# Altium integrated library CDE_Library.IntLib: 6171 symbols (part 4 of 25)
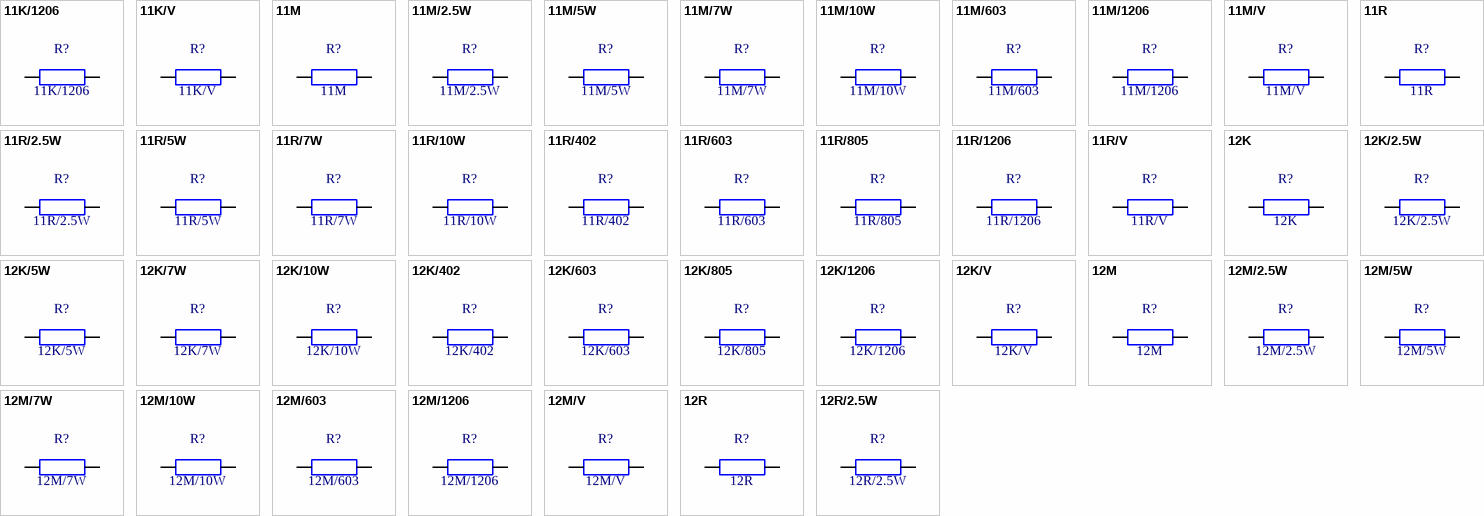
[diagram p260: symbols 11K/1206 to 12R/2.5W]

## 11M
designator R?
weerstand 11M 0.6W
footprint ws 0.6W H
pins: 1, 2

## 11M/2.5W
designator R?
weerstand 11M 2.5W
footprint ws 2.5W H
pins: 1, 2

## 11M/5W
designator R?
weerstand 11M 5W
footprint ws 5W H
pins: 1, 2

## 11M/7W
designator R?
weerstand 11M 7W
footprint ws 7W H
pins: 1, 2

## 11M/10W
designator R?
weerstand 11M 10W
footprint ws 10W H
pins: 1, 2

## 11M/603
designator R?
weerstand SMD603, 11M
footprint smd C0603_0.45
pins: 1, 2

## 11M/1206
designator R?
weerstand SMD1206, 11M
footprint smd C1206_0.55
pins: 1, 2

## 11M/V
designator R?
weerstand 11M 0.6W, vertikaal
footprint ws 0.6W V
pins: 1, 2

## 11R
designator R?
weerstand 11R 0.6W
footprint ws 0.6W H
pins: 1, 2

## 11R/2.5W
designator R?
weerstand 11R 2.5W
footprint ws 2.5W H
pins: 1, 2

## 11R/5W
designator R?
weerstand 11R 5W
footprint ws 5W H
pins: 1, 2

## 11R/7W
designator R?
weerstand 11R 7W
footprint ws 7W H
pins: 1, 2

## 11R/10W
designator R?
weerstand 11R 10W
footprint ws 10W H
pins: 1, 2

## 11R/402
designator R?
weerstand SMD402, 11R
footprint smd C0402_0.35
pins: 1, 2

## 11R/603
designator R?
weerstand SMD603, 11R
footprint smd C0603_0.45
pins: 1, 2

## 11R/805
designator R?
weerstand SMD805, 11R
footprint smd C0805_0.50
pins: 1, 2

## 11R/1206
designator R?
weerstand SMD1206, 11R
footprint smd C1206_0.55
pins: 1, 2

## 11R/V
designator R?
weerstand 11R 0.6W, vertikaal
footprint ws 0.6W V
pins: 1, 2

## 12K
designator R?
weerstand 12K 0.6W
footprint ws 0.6W H
pins: 1, 2

## 12K/2.5W
designator R?
weerstand 12K 2.5W
footprint ws 2.5W H
pins: 1, 2

## 12K/5W
designator R?
weerstand 12K 5W
footprint ws 5W H
pins: 1, 2

## 12K/7W
designator R?
weerstand 12K 7W
footprint ws 7W H
pins: 1, 2

## 12K/10W
designator R?
weerstand 12K 10W
footprint ws 10W H
pins: 1, 2

## 12K/402
designator R?
weerstand SMD402, 12K
footprint smd C0402_0.35
pins: 1, 2

## 12K/603
designator R?
weerstand SMD603, 12K
footprint smd C0603_0.45
pins: 1, 2

## 12K/805
designator R?
weerstand SMD805, 12K
footprint smd C0805_0.50
pins: 1, 2

## 12K/1206
designator R?
weerstand SMD1206, 12K
footprint smd C1206_0.55
pins: 1, 2

## 12K/V
designator R?
weerstand 12K 0.6W, vertikaal
footprint ws 0.6W V
pins: 1, 2

## 12M
designator R?
weerstand 12M 0.6W
footprint ws 0.6W H
pins: 1, 2

## 12M/2.5W
designator R?
weerstand 12M 2.5W
footprint ws 2.5W H
pins: 1, 2

## 12M/5W
designator R?
weerstand 12M 5W
footprint ws 5W H
pins: 1, 2

## 12M/7W
designator R?
weerstand 12M 7W
footprint ws 7W H
pins: 1, 2

## 12M/10W
designator R?
weerstand 12M 10W
footprint ws 10W H
pins: 1, 2

## 12M/603
designator R?
weerstand SMD603, 12M
footprint smd C0603_0.45
pins: 1, 2

## 12M/1206
designator R?
weerstand SMD1206, 12M
footprint smd C1206_0.55
pins: 1, 2

## 12M/V
designator R?
weerstand 12M 0.6W, vertikaal
footprint ws 0.6W V
pins: 1, 2

## 12R
designator R?
weerstand 12R 0.6W
footprint ws 0.6W H
pins: 1, 2

## 12R/2.5W
designator R?
weerstand 12R 2.5W
footprint ws 2.5W H
pins: 1, 2

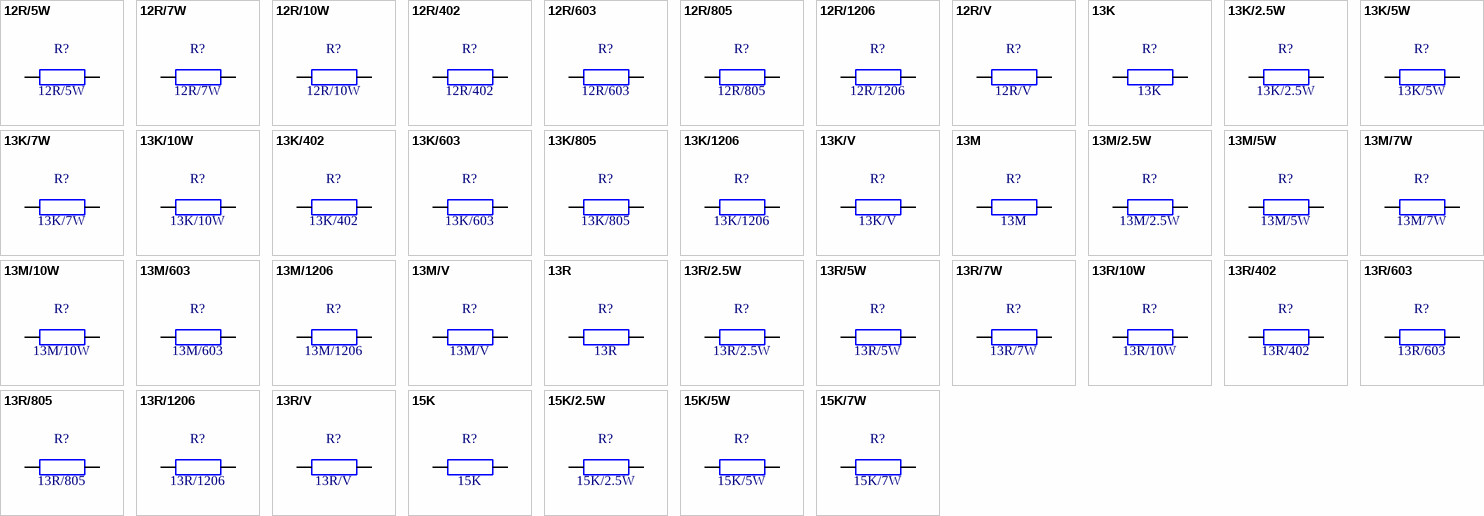
[diagram p50: symbols 12R/5W to 15K/7W]

## 12R/5W
designator R?
weerstand 12R 5W
footprint ws 5W H
pins: 1, 2

## 12R/7W
designator R?
weerstand 12R 7W
footprint ws 7W H
pins: 1, 2

## 12R/10W
designator R?
weerstand 12R 10W
footprint ws 10W H
pins: 1, 2

## 12R/402
designator R?
weerstand SMD402, 12R
footprint smd C0402_0.35
pins: 1, 2

## 12R/603
designator R?
weerstand SMD603, 12R
footprint smd C0603_0.45
pins: 1, 2

## 12R/805
designator R?
weerstand SMD805, 12R
footprint smd C0805_0.50
pins: 1, 2

## 12R/1206
designator R?
weerstand SMD1206, 12R
footprint smd C1206_0.55
pins: 1, 2

## 12R/V
designator R?
weerstand 12R 0.6W, vertikaal
footprint ws 0.6W V
pins: 1, 2

## 13K
designator R?
weerstand 13K 0.6W
footprint ws 0.6W H
pins: 1, 2

## 13K/2.5W
designator R?
weerstand 13K 2.5W
footprint ws 2.5W H
pins: 1, 2

## 13K/5W
designator R?
weerstand 13K 5W
footprint ws 5W H
pins: 1, 2

## 13K/7W
designator R?
weerstand 13K 7W
footprint ws 7W H
pins: 1, 2

## 13K/10W
designator R?
weerstand 13K 10W
footprint ws 10W H
pins: 1, 2

## 13K/402
designator R?
weerstand SMD402, 13K
footprint smd C0402_0.35
pins: 1, 2

## 13K/603
designator R?
weerstand SMD603, 13K
footprint smd C0603_0.45
pins: 1, 2

## 13K/805
designator R?
weerstand SMD805, 13K
footprint smd C0805_0.50
pins: 1, 2

## 13K/1206
designator R?
weerstand SMD1206, 13K
footprint smd C1206_0.55
pins: 1, 2

## 13K/V
designator R?
weerstand 13K 0.6W, vertikaal
footprint ws 0.6W V
pins: 1, 2

## 13M
designator R?
weerstand 13M 0.6W
footprint ws 0.6W H
pins: 1, 2

## 13M/2.5W
designator R?
weerstand 13M 2.5W
footprint ws 2.5W H
pins: 1, 2

## 13M/5W
designator R?
weerstand 13M 5W
footprint ws 5W H
pins: 1, 2

## 13M/7W
designator R?
weerstand 13M 7W
footprint ws 7W H
pins: 1, 2

## 13M/10W
designator R?
weerstand 13M 10W
footprint ws 10W H
pins: 1, 2

## 13M/603
designator R?
weerstand SMD603, 13M
footprint smd C0603_0.45
pins: 1, 2

## 13M/1206
designator R?
weerstand SMD1206, 13M
footprint smd C1206_0.55
pins: 1, 2

## 13M/V
designator R?
weerstand 13M 0.6W, vertikaal
footprint ws 0.6W V
pins: 1, 2

## 13R
designator R?
weerstand 13R 0.6W
footprint ws 0.6W H
pins: 1, 2

## 13R/2.5W
designator R?
weerstand 13R 2.5W
footprint ws 2.5W H
pins: 1, 2

## 13R/5W
designator R?
weerstand 13R 5W
footprint ws 5W H
pins: 1, 2

## 13R/7W
designator R?
weerstand 13R 7W
footprint ws 7W H
pins: 1, 2

## 13R/10W
designator R?
weerstand 13R 10W
footprint ws 10W H
pins: 1, 2

## 13R/402
designator R?
weerstand SMD402, 13R
footprint smd C0402_0.35
pins: 1, 2

## 13R/603
designator R?
weerstand SMD603, 13R
footprint smd C0603_0.45
pins: 1, 2

## 13R/805
designator R?
weerstand SMD805, 13R
footprint smd C0805_0.50
pins: 1, 2

## 13R/1206
designator R?
weerstand SMD1206, 13R
footprint smd C1206_0.55
pins: 1, 2

## 13R/V
designator R?
weerstand 13R 0.6W, vertikaal
footprint ws 0.6W V
pins: 1, 2

## 15K
designator R?
weerstand 15K 0.6W
footprint ws 0.6W H
pins: 1, 2

## 15K/2.5W
designator R?
weerstand 15K 2.5W
footprint ws 2.5W H
pins: 1, 2

## 15K/5W
designator R?
weerstand 15K 5W
footprint ws 5W H
pins: 1, 2

## 15K/7W
designator R?
weerstand 15K 7W
footprint ws 7W H
pins: 1, 2

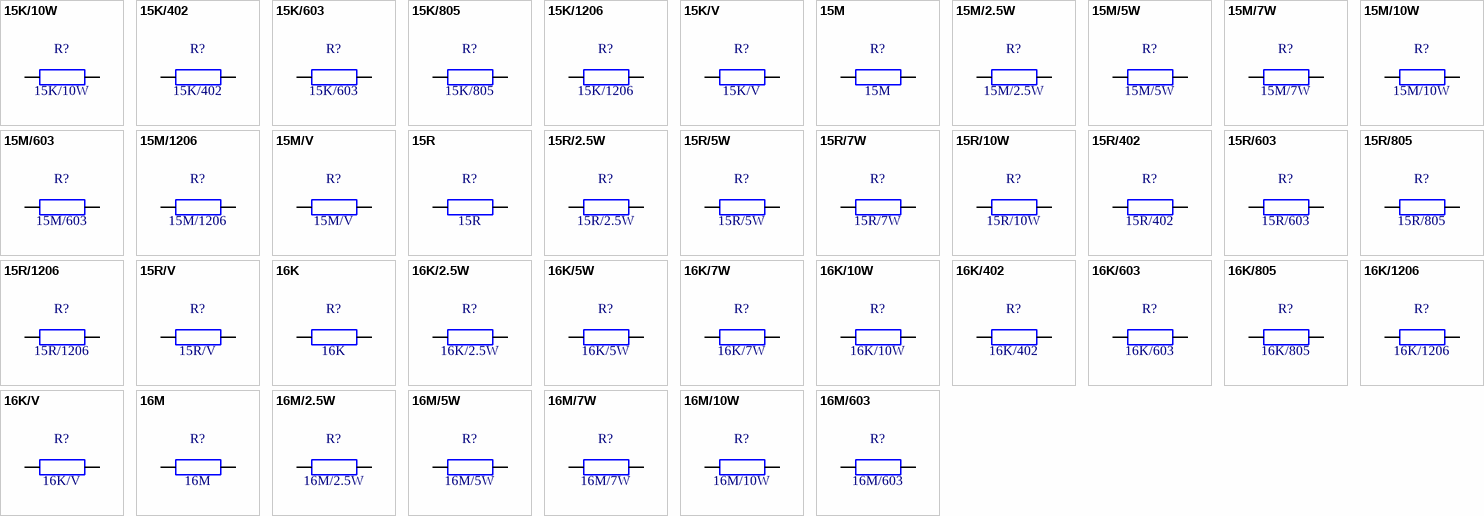
[diagram p51: symbols 15K/10W to 16M/603]

## 15K/10W
designator R?
weerstand 15K 10W
footprint ws 10W H
pins: 1, 2

## 15K/402
designator R?
weerstand SMD402, 15K
footprint smd C0402_0.35
pins: 1, 2

## 15K/603
designator R?
weerstand SMD603, 15K
footprint smd C0603_0.45
pins: 1, 2

## 15K/805
designator R?
weerstand SMD805, 15K
footprint smd C0805_0.50
pins: 1, 2

## 15K/1206
designator R?
weerstand SMD1206, 15K
footprint smd C1206_0.55
pins: 1, 2

## 15K/V
designator R?
weerstand 15K 0.6W, vertikaal
footprint ws 0.6W V
pins: 1, 2

## 15M
designator R?
weerstand 15M 0.6W
footprint ws 0.6W H
pins: 1, 2

## 15M/2.5W
designator R?
weerstand 15M 2.5W
footprint ws 2.5W H
pins: 1, 2

## 15M/5W
designator R?
weerstand 15M 5W
footprint ws 5W H
pins: 1, 2

## 15M/7W
designator R?
weerstand 15M 7W
footprint ws 7W H
pins: 1, 2

## 15M/10W
designator R?
weerstand 15M 10W
footprint ws 10W H
pins: 1, 2

## 15M/603
designator R?
weerstand SMD603, 15M
footprint smd C0603_0.45
pins: 1, 2

## 15M/1206
designator R?
weerstand SMD1206, 15M
footprint smd C1206_0.55
pins: 1, 2

## 15M/V
designator R?
weerstand 15M 0.6W, vertikaal
footprint ws 0.6W V
pins: 1, 2

## 15R
designator R?
weerstand 15R 0.6W
footprint ws 0.6W H
pins: 1, 2

## 15R/2.5W
designator R?
weerstand 15R 2.5W
footprint ws 2.5W H
pins: 1, 2

## 15R/5W
designator R?
weerstand 15R 5W
footprint ws 5W H
pins: 1, 2

## 15R/7W
designator R?
weerstand 15R 7W
footprint ws 7W H
pins: 1, 2

## 15R/10W
designator R?
weerstand 15R 10W
footprint ws 10W H
pins: 1, 2

## 15R/402
designator R?
weerstand SMD402, 15R
footprint smd C0402_0.35
pins: 1, 2

## 15R/603
designator R?
weerstand SMD603, 15R
footprint smd C0603_0.45
pins: 1, 2

## 15R/805
designator R?
weerstand SMD805, 15R
footprint smd C0805_0.50
pins: 1, 2

## 15R/1206
designator R?
weerstand SMD1206, 15R
footprint smd C1206_0.55
pins: 1, 2

## 15R/V
designator R?
weerstand 15R 0.6W, vertikaal
footprint ws 0.6W V
pins: 1, 2

## 16K
designator R?
weerstand 16K 0.6W
footprint ws 0.6W H
pins: 1, 2

## 16K/2.5W
designator R?
weerstand 16K 2.5W
footprint ws 2.5W H
pins: 1, 2

## 16K/5W
designator R?
weerstand 16K 5W
footprint ws 5W H
pins: 1, 2

## 16K/7W
designator R?
weerstand 16K 7W
footprint ws 7W H
pins: 1, 2

## 16K/10W
designator R?
weerstand 16K 10W
footprint ws 10W H
pins: 1, 2

## 16K/402
designator R?
weerstand SMD402, 16K
footprint smd C0402_0.35
pins: 1, 2

## 16K/603
designator R?
weerstand SMD603, 16K
footprint smd C0603_0.45
pins: 1, 2

## 16K/805
designator R?
weerstand SMD805, 16K
footprint smd C0805_0.50
pins: 1, 2

## 16K/1206
designator R?
weerstand SMD1206, 16K
footprint smd C1206_0.55
pins: 1, 2

## 16K/V
designator R?
weerstand 16K 0.6W, vertikaal
footprint ws 0.6W V
pins: 1, 2

## 16M
designator R?
weerstand 16M 0.6W
footprint ws 0.6W H
pins: 1, 2

## 16M/2.5W
designator R?
weerstand 16M 2.5W
footprint ws 2.5W H
pins: 1, 2

## 16M/5W
designator R?
weerstand 16M 5W
footprint ws 5W H
pins: 1, 2

## 16M/7W
designator R?
weerstand 16M 7W
footprint ws 7W H
pins: 1, 2

## 16M/10W
designator R?
weerstand 16M 10W
footprint ws 10W H
pins: 1, 2

## 16M/603
designator R?
weerstand SMD603, 16M
footprint smd C0603_0.45
pins: 1, 2

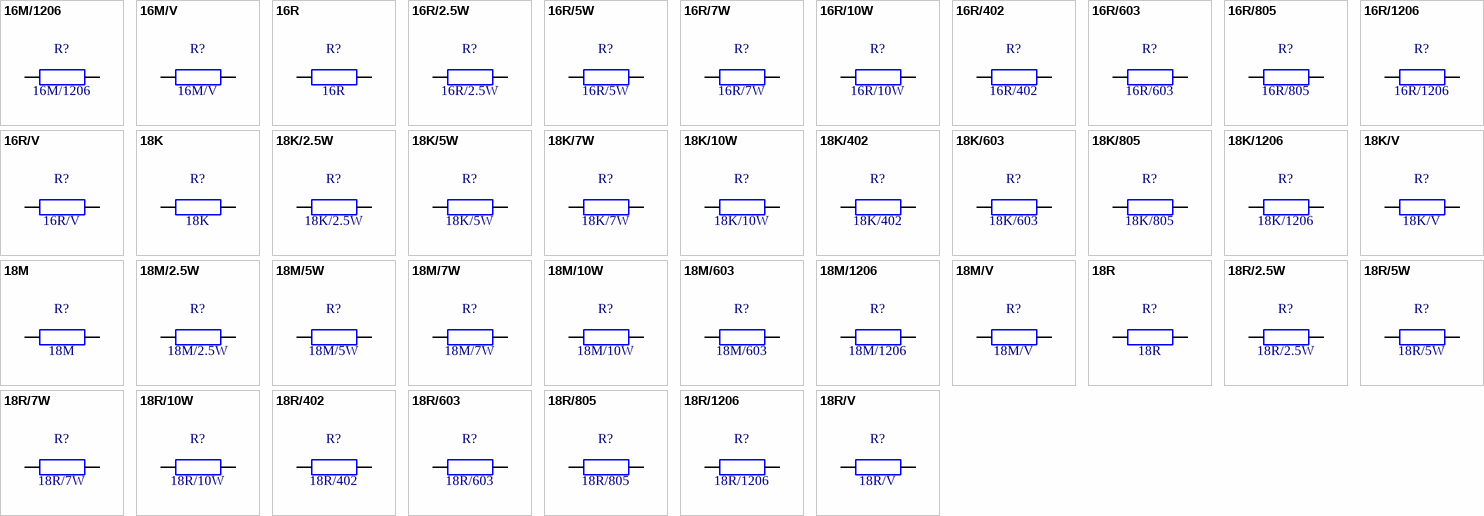
[diagram p52: symbols 16M/1206 to 18R/V]

## 16M/1206
designator R?
weerstand SMD1206, 16M
footprint smd C1206_0.55
pins: 1, 2

## 16M/V
designator R?
weerstand 16M 0.6W, vertikaal
footprint ws 0.6W V
pins: 1, 2

## 16R
designator R?
weerstand 16R 0.6W
footprint ws 0.6W H
pins: 1, 2

## 16R/2.5W
designator R?
weerstand 16R 2.5W
footprint ws 2.5W H
pins: 1, 2

## 16R/5W
designator R?
weerstand 16R 5W
footprint ws 5W H
pins: 1, 2

## 16R/7W
designator R?
weerstand 16R 7W
footprint ws 7W H
pins: 1, 2

## 16R/10W
designator R?
weerstand 16R 10W
footprint ws 10W H
pins: 1, 2

## 16R/402
designator R?
weerstand SMD402, 16R
footprint smd C0402_0.35
pins: 1, 2

## 16R/603
designator R?
weerstand SMD603, 16R
footprint smd C0603_0.45
pins: 1, 2

## 16R/805
designator R?
weerstand SMD805, 16R
footprint smd C0805_0.50
pins: 1, 2

## 16R/1206
designator R?
weerstand SMD1206, 16R
footprint smd C1206_0.55
pins: 1, 2

## 16R/V
designator R?
weerstand 16R 0.6W, vertikaal
footprint ws 0.6W V
pins: 1, 2

## 18K
designator R?
weerstand 18K 0.6W
footprint ws 0.6W H
pins: 1, 2

## 18K/2.5W
designator R?
weerstand 18K 2.5W
footprint ws 2.5W H
pins: 1, 2

## 18K/5W
designator R?
weerstand 18K 5W
footprint ws 5W H
pins: 1, 2

## 18K/7W
designator R?
weerstand 18K 7W
footprint ws 7W H
pins: 1, 2

## 18K/10W
designator R?
weerstand 18K 10W
footprint ws 10W H
pins: 1, 2

## 18K/402
designator R?
weerstand SMD402, 18K
footprint smd C0402_0.35
pins: 1, 2

## 18K/603
designator R?
weerstand SMD603, 18K
footprint smd C0603_0.45
pins: 1, 2

## 18K/805
designator R?
weerstand SMD805, 18K
footprint smd C0805_0.50
pins: 1, 2

## 18K/1206
designator R?
weerstand SMD1206, 18K
footprint smd C1206_0.55
pins: 1, 2

## 18K/V
designator R?
weerstand 18K 0.6W, vertikaal
footprint ws 0.6W V
pins: 1, 2

## 18M
designator R?
weerstand 18M 0.6W
footprint ws 0.6W H
pins: 1, 2

## 18M/2.5W
designator R?
weerstand 18M 2.5W
footprint ws 2.5W H
pins: 1, 2

## 18M/5W
designator R?
weerstand 18M 5W
footprint ws 5W H
pins: 1, 2

## 18M/7W
designator R?
weerstand 18M 7W
footprint ws 7W H
pins: 1, 2

## 18M/10W
designator R?
weerstand 18M 10W
footprint ws 10W H
pins: 1, 2

## 18M/603
designator R?
weerstand SMD603, 18M
footprint smd C0603_0.45
pins: 1, 2

## 18M/1206
designator R?
weerstand SMD1206, 18M
footprint smd C1206_0.55
pins: 1, 2

## 18M/V
designator R?
weerstand 18M 0.6W, vertikaal
footprint ws 0.6W V
pins: 1, 2

## 18R
designator R?
weerstand 18R 0.6W
footprint ws 0.6W H
pins: 1, 2

## 18R/2.5W
designator R?
weerstand 18R 2.5W
footprint ws 2.5W H
pins: 1, 2

## 18R/5W
designator R?
weerstand 18R 5W
footprint ws 5W H
pins: 1, 2

## 18R/7W
designator R?
weerstand 18R 7W
footprint ws 7W H
pins: 1, 2

## 18R/10W
designator R?
weerstand 18R 10W
footprint ws 10W H
pins: 1, 2

## 18R/402
designator R?
weerstand SMD402, 18R
footprint smd C0402_0.35
pins: 1, 2

## 18R/603
designator R?
weerstand SMD603, 18R
footprint smd C0603_0.45
pins: 1, 2

## 18R/805
designator R?
weerstand SMD805, 18R
footprint smd C0805_0.50
pins: 1, 2

## 18R/1206
designator R?
weerstand SMD1206, 18R
footprint smd C1206_0.55
pins: 1, 2

## 18R/V
designator R?
weerstand 18R 0.6W, vertikaal
footprint ws 0.6W V
pins: 1, 2

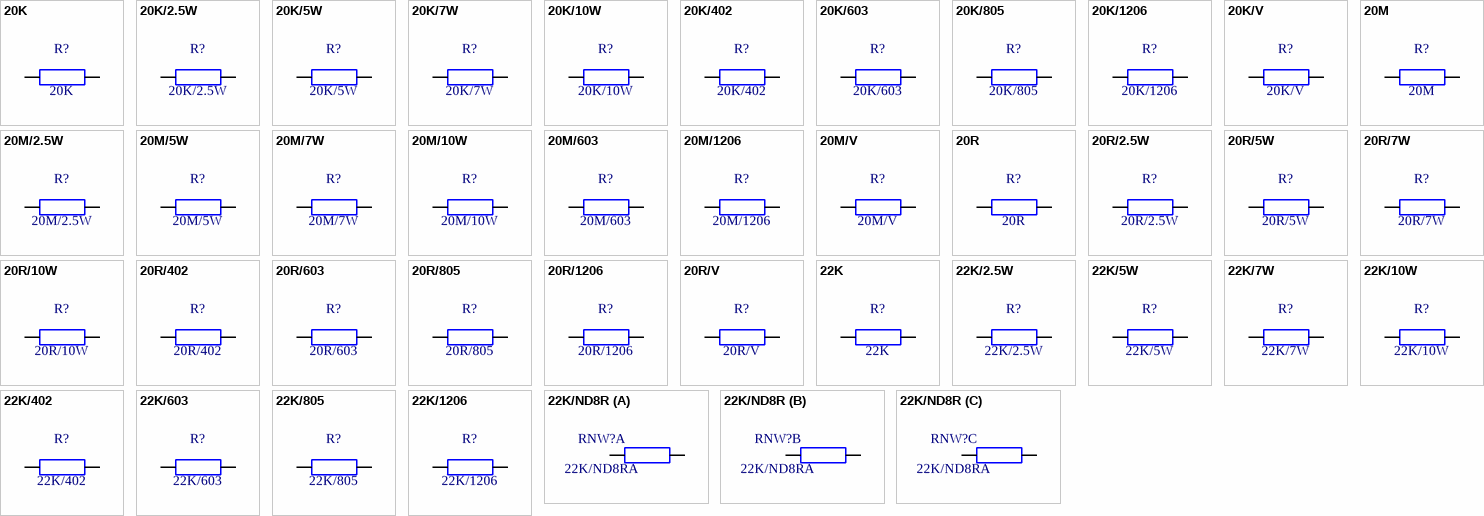
[diagram p53: symbols 20K to 22K/ND8R]

## 20K
designator R?
weerstand 20K 0.6W
footprint ws 0.6W H
pins: 1, 2

## 20K/2.5W
designator R?
weerstand 20K 2.5W
footprint ws 2.5W H
pins: 1, 2

## 20K/5W
designator R?
weerstand 20K 5W
footprint ws 5W H
pins: 1, 2

## 20K/7W
designator R?
weerstand 20K 7W
footprint ws 7W H
pins: 1, 2

## 20K/10W
designator R?
weerstand 20K 10W
footprint ws 10W H
pins: 1, 2

## 20K/402
designator R?
weerstand SMD402, 20K
footprint smd C0402_0.35
pins: 1, 2

## 20K/603
designator R?
weerstand SMD603, 20K
footprint smd C0603_0.45
pins: 1, 2

## 20K/805
designator R?
weerstand SMD805, 20K
footprint smd C0805_0.50
pins: 1, 2

## 20K/1206
designator R?
weerstand SMD1206, 20K
footprint smd C1206_0.55
pins: 1, 2

## 20K/V
designator R?
weerstand 20K 0.6W, vertikaal
footprint ws 0.6W V
pins: 1, 2

## 20M
designator R?
weerstand 20M 0.6W
footprint ws 0.6W H
pins: 1, 2

## 20M/2.5W
designator R?
weerstand 20M 2.5W
footprint ws 2.5W H
pins: 1, 2

## 20M/5W
designator R?
weerstand 20M 5W
footprint ws 5W H
pins: 1, 2

## 20M/7W
designator R?
weerstand 20M 7W
footprint ws 7W H
pins: 1, 2

## 20M/10W
designator R?
weerstand 20M 10W
footprint ws 10W H
pins: 1, 2

## 20M/603
designator R?
weerstand SMD603, 20M
footprint smd C0603_0.45
pins: 1, 2

## 20M/1206
designator R?
weerstand SMD1206, 20M
footprint smd C1206_0.55
pins: 1, 2

## 20M/V
designator R?
weerstand 20M 0.6W, vertikaal
footprint ws 0.6W V
pins: 1, 2

## 20R
designator R?
weerstand 20R 0.6W
footprint ws 0.6W H
pins: 1, 2

## 20R/2.5W
designator R?
weerstand 20R 2.5W
footprint ws 2.5W H
pins: 1, 2

## 20R/5W
designator R?
weerstand 20R 5W
footprint ws 5W H
pins: 1, 2

## 20R/7W
designator R?
weerstand 20R 7W
footprint ws 7W H
pins: 1, 2

## 20R/10W
designator R?
weerstand 20R 10W
footprint ws 10W H
pins: 1, 2

## 20R/402
designator R?
weerstand SMD402, 20R
footprint smd C0402_0.35
pins: 1, 2

## 20R/603
designator R?
weerstand SMD603, 20R
footprint smd C0603_0.45
pins: 1, 2

## 20R/805
designator R?
weerstand SMD805, 20R
footprint smd C0805_0.50
pins: 1, 2

## 20R/1206
designator R?
weerstand SMD1206, 20R
footprint smd C1206_0.55
pins: 1, 2

## 20R/V
designator R?
weerstand 20R 0.6W, vertikaal
footprint ws 0.6W V
pins: 1, 2

## 22K
designator R?
weerstand 22K 0.6W
footprint ws 0.6W H
pins: 1, 2

## 22K/2.5W
designator R?
weerstand 22K 2.5W
footprint ws 2.5W H
pins: 1, 2

## 22K/5W
designator R?
weerstand 22K 5W
footprint ws 5W H
pins: 1, 2

## 22K/7W
designator R?
weerstand 22K 7W
footprint ws 7W H
pins: 1, 2

## 22K/10W
designator R?
weerstand 22K 10W
footprint ws 10W H
pins: 1, 2

## 22K/402
designator R?
weerstand SMD402, 22K
footprint smd C0402_0.35
pins: 1, 2

## 22K/603
designator R?
weerstand SMD603, 22K
footprint smd C0603_0.45
pins: 1, 2

## 22K/805
designator R?
weerstand SMD805, 22K
footprint smd C0805_0.50
pins: 1, 2

## 22K/1206
designator R?
weerstand SMD1206, 22K
footprint smd C1206_0.55
pins: 1, 2

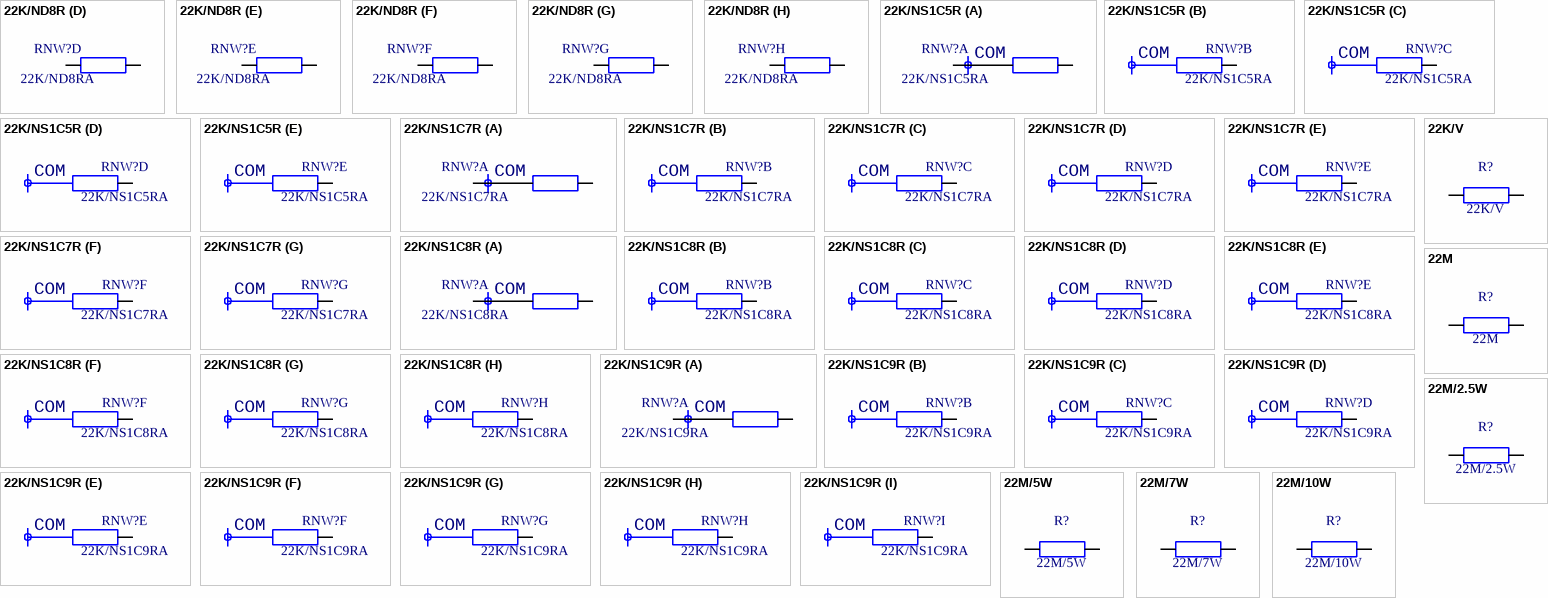
[diagram p54: symbols 22K/ND8R to 22M/10W]

## 22K/ND8R
designator RNW?, comment 22K/ND8RA
weerstandsnetwerk, DIL, 8 x 22K
footprint icv DIP16-300
part A pins: 1, 16
part B pins: 2, 15
part C pins: 3, 14
part D pins: 4, 13
part E pins: 5, 12
part F pins: 6, 11
part G pins: 7, 10
part H pins: 8, 9

## 22K/NS1C5R
designator RNW?, comment 22K/NS1C5RA
weerstandsnetwerk, SIL, 1 gemeens.pin, 5 weerst., 22K
footprint ws netwerk 5xR 1C (SIL)
part A pins: 1, 2
part B pins: 3
part C pins: 4
part D pins: 5
part E pins: 6
part A text: COM
part B text: COM
part C text: COM
part D text: COM
part E text: COM

## 22K/NS1C7R
designator RNW?, comment 22K/NS1C7RA
weerstandsnetwerk, SIL, 1 gemeens.pin, 7 weerst., 22K
footprint ws netwerk 7xR 1C (SIL)
part A pins: 1, 2
part B pins: 3
part C pins: 4
part D pins: 5
part E pins: 6
part F pins: 7
part G pins: 8
part A text: COM
part B text: COM
part C text: COM
part D text: COM
part E text: COM
part F text: COM
part G text: COM

## 22K/NS1C8R
designator RNW?, comment 22K/NS1C8RA
weerstandsnetwerk, SIL, 1 gemeens.pin, 8 weerst., 22K
footprint ws netwerk 8xR 1C (SIL)
part A pins: 1, 2
part B pins: 3
part C pins: 4
part D pins: 5
part E pins: 6
part F pins: 7
part G pins: 8
part H pins: 9
part A text: COM
part B text: COM
part C text: COM
part D text: COM
part E text: COM
part F text: COM
part G text: COM
part H text: COM

## 22K/NS1C9R
designator RNW?, comment 22K/NS1C9RA
weerstandsnetwerk, SIL, 1 gemeens.pin, 9 weerst., 22K
footprint ws netwerk 9xR 1C (SIL)
part A pins: 1, 2
part B pins: 3
part C pins: 4
part D pins: 5
part E pins: 6
part F pins: 7
part G pins: 8
part H pins: 9
part I pins: 10
part A text: COM
part B text: COM
part C text: COM
part D text: COM
part E text: COM
part F text: COM
part G text: COM
part H text: COM
part I text: COM

## 22K/V
designator R?
weerstand 22K 0.6W, vertikaal
footprint ws 0.6W V
pins: 1, 2

## 22M
designator R?
weerstand 22M 0.6W
footprint ws 0.6W H
pins: 1, 2

## 22M/2.5W
designator R?
weerstand 22M 2.5W
footprint ws 2.5W H
pins: 1, 2

## 22M/5W
designator R?
weerstand 22M 5W
footprint ws 5W H
pins: 1, 2

## 22M/7W
designator R?
weerstand 22M 7W
footprint ws 7W H
pins: 1, 2

## 22M/10W
designator R?
weerstand 22M 10W
footprint ws 10W H
pins: 1, 2

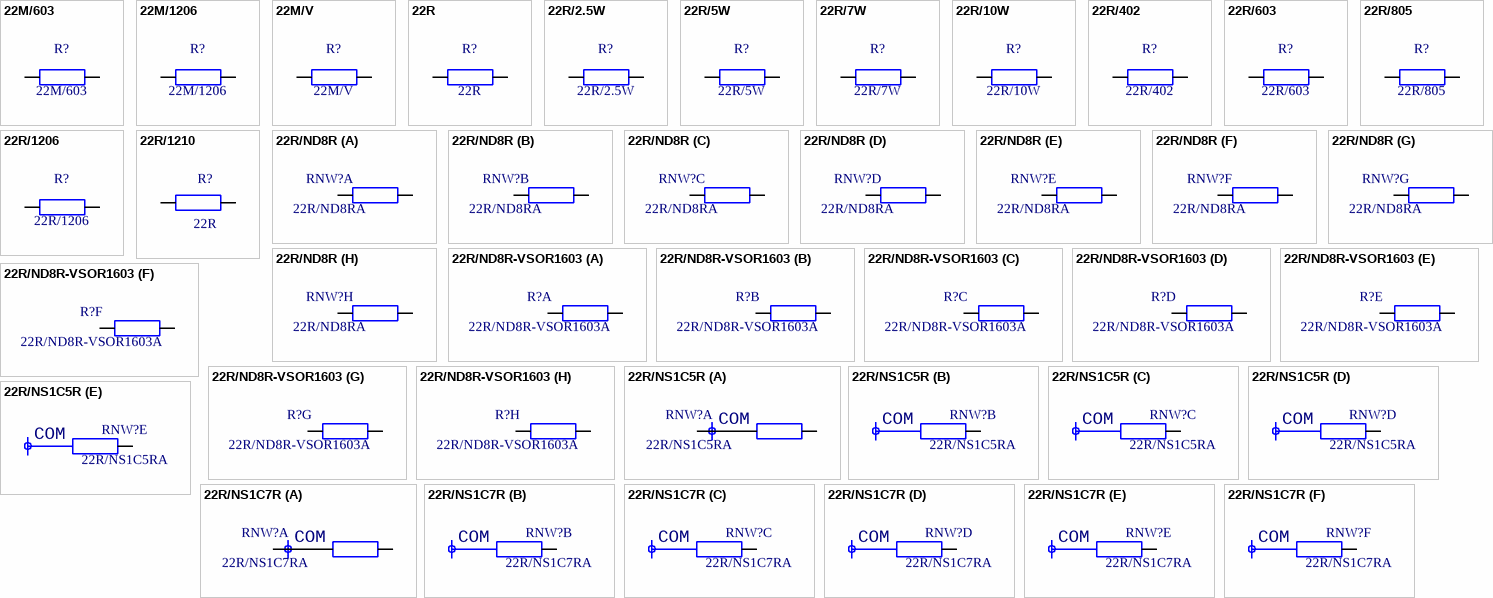
[diagram p55: symbols 22M/603 to 22R/NS1C7R]

## 22M/603
designator R?
weerstand SMD603, 22M
footprint smd C0603_0.45
pins: 1, 2

## 22M/1206
designator R?
weerstand SMD1206, 22M
footprint smd C1206_0.55
pins: 1, 2

## 22M/V
designator R?
weerstand 22M 0.6W, vertikaal
footprint ws 0.6W V
pins: 1, 2

## 22R
designator R?
weerstand 22R 0.6W
footprint ws 0.6W H
pins: 1, 2

## 22R/2.5W
designator R?
weerstand 22R 2.5W
footprint ws 2.5W H
pins: 1, 2

## 22R/5W
designator R?
weerstand 22R 5W
footprint ws 5W H
pins: 1, 2

## 22R/7W
designator R?
weerstand 22R 7W
footprint ws 7W H
pins: 1, 2

## 22R/10W
designator R?
weerstand 22R 10W
footprint ws 10W H
pins: 1, 2

## 22R/402
designator R?
weerstand SMD402, 22R
footprint smd C0402_0.35
pins: 1, 2

## 22R/603
designator R?
weerstand SMD603, 22R
footprint smd C0603_0.45
pins: 1, 2

## 22R/805
designator R?
weerstand SMD805, 22R
footprint smd C0805_0.50
pins: 1, 2

## 22R/1206
designator R?
weerstand SMD1206, 22R
footprint smd C1206_0.55
pins: 1, 2

## 22R/1210
designator R?, comment 22R
weerstand SMD1210, 22R
footprint SMD C1210 (Chip Capacitor; Body 3.2 x 2.5 mm (LxW typ))
pins: 1, 2

## 22R/ND8R
designator RNW?, comment 22R/ND8RA
weerstandsnetwerk, DIL, 8 x 22R
footprint icv DIP16-300
part A pins: 1, 16
part B pins: 2, 15
part C pins: 3, 14
part D pins: 4, 13
part E pins: 5, 12
part F pins: 6, 11
part G pins: 7, 10
part H pins: 8, 9

## 22R/ND8R-VSOR1603
designator R?, comment 22R/ND8R-VSOR1603A
weerstandsnetwerk, DIL, smd, Vishay VSOR1603, 8 x 22R
footprint smd SOICN/16
part A pins: 1, 16
part B pins: 2, 15
part C pins: 3, 14
part D pins: 4, 13
part E pins: 5, 12
part F pins: 6, 11
part G pins: 7, 10
part H pins: 8, 9

## 22R/NS1C5R
designator RNW?, comment 22R/NS1C5RA
weerstandsnetwerk, SIL, 1 gemeens.pin, 5 weerst., 22R
footprint ws netwerk 5xR 1C (SIL)
part A pins: 1, 2
part B pins: 3
part C pins: 4
part D pins: 5
part E pins: 6
part A text: COM
part B text: COM
part C text: COM
part D text: COM
part E text: COM

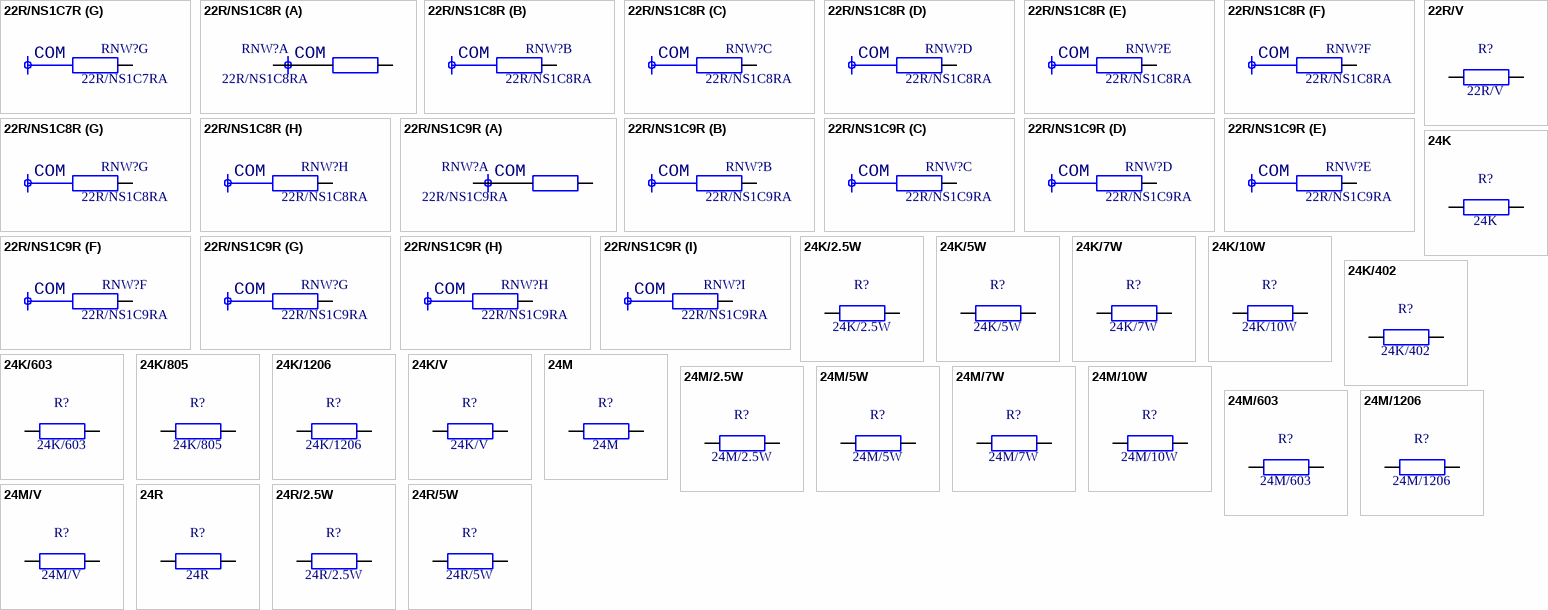
[diagram p56: symbols 22R/NS1C7R to 24R/5W]

## 22R/NS1C7R
designator RNW?, comment 22R/NS1C7RA
weerstandsnetwerk, SIL, 1 gemeens.pin, 7 weerst., 22R
footprint ws netwerk 7xR 1C (SIL)
part A pins: 1, 2
part B pins: 3
part C pins: 4
part D pins: 5
part E pins: 6
part F pins: 7
part G pins: 8
part A text: COM
part B text: COM
part C text: COM
part D text: COM
part E text: COM
part F text: COM
part G text: COM

## 22R/NS1C8R
designator RNW?, comment 22R/NS1C8RA
weerstandsnetwerk, SIL, 1 gemeens.pin, 8 weerst., 22R
footprint ws netwerk 8xR 1C (SIL)
part A pins: 1, 2
part B pins: 3
part C pins: 4
part D pins: 5
part E pins: 6
part F pins: 7
part G pins: 8
part H pins: 9
part A text: COM
part B text: COM
part C text: COM
part D text: COM
part E text: COM
part F text: COM
part G text: COM
part H text: COM

## 22R/NS1C9R
designator RNW?, comment 22R/NS1C9RA
weerstandsnetwerk, SIL, 1 gemeens.pin, 9 weerst., 22R
footprint ws netwerk 9xR 1C (SIL)
part A pins: 1, 2
part B pins: 3
part C pins: 4
part D pins: 5
part E pins: 6
part F pins: 7
part G pins: 8
part H pins: 9
part I pins: 10
part A text: COM
part B text: COM
part C text: COM
part D text: COM
part E text: COM
part F text: COM
part G text: COM
part H text: COM
part I text: COM

## 22R/V
designator R?
weerstand 22R 0.6W, vertikaal
footprint ws 0.6W V
pins: 1, 2

## 24K
designator R?
weerstand 24K 0.6W
footprint ws 0.6W H
pins: 1, 2

## 24K/2.5W
designator R?
weerstand 24K 2.5W
footprint ws 2.5W H
pins: 1, 2

## 24K/5W
designator R?
weerstand 24K 5W
footprint ws 5W H
pins: 1, 2

## 24K/7W
designator R?
weerstand 24K 7W
footprint ws 7W H
pins: 1, 2

## 24K/10W
designator R?
weerstand 24K 10W
footprint ws 10W H
pins: 1, 2

## 24K/402
designator R?
weerstand SMD402, 24K
footprint smd C0402_0.35
pins: 1, 2

## 24K/603
designator R?
weerstand SMD603, 24K
footprint smd C0603_0.45
pins: 1, 2

## 24K/805
designator R?
weerstand SMD805, 24K
footprint smd C0805_0.50
pins: 1, 2

## 24K/1206
designator R?
weerstand SMD1206, 24K
footprint smd C1206_0.55
pins: 1, 2

## 24K/V
designator R?
weerstand 24K 0.6W, vertikaal
footprint ws 0.6W V
pins: 1, 2

## 24M
designator R?
weerstand 24M 0.6W
footprint ws 0.6W H
pins: 1, 2

## 24M/2.5W
designator R?
weerstand 24M 2.5W
footprint ws 2.5W H
pins: 1, 2

## 24M/5W
designator R?
weerstand 24M 5W
footprint ws 5W H
pins: 1, 2

## 24M/7W
designator R?
weerstand 24M 7W
footprint ws 7W H
pins: 1, 2

## 24M/10W
designator R?
weerstand 24M 10W
footprint ws 10W H
pins: 1, 2

## 24M/603
designator R?
weerstand SMD603, 24M
footprint smd C0603_0.45
pins: 1, 2

## 24M/1206
designator R?
weerstand SMD1206, 24M
footprint smd C1206_0.55
pins: 1, 2

## 24M/V
designator R?
weerstand 24M 0.6W, vertikaal
footprint ws 0.6W V
pins: 1, 2

## 24R
designator R?
weerstand 24R 0.6W
footprint ws 0.6W H
pins: 1, 2

## 24R/2.5W
designator R?
weerstand 24R 2.5W
footprint ws 2.5W H
pins: 1, 2

## 24R/5W
designator R?
weerstand 24R 5W
footprint ws 5W H
pins: 1, 2

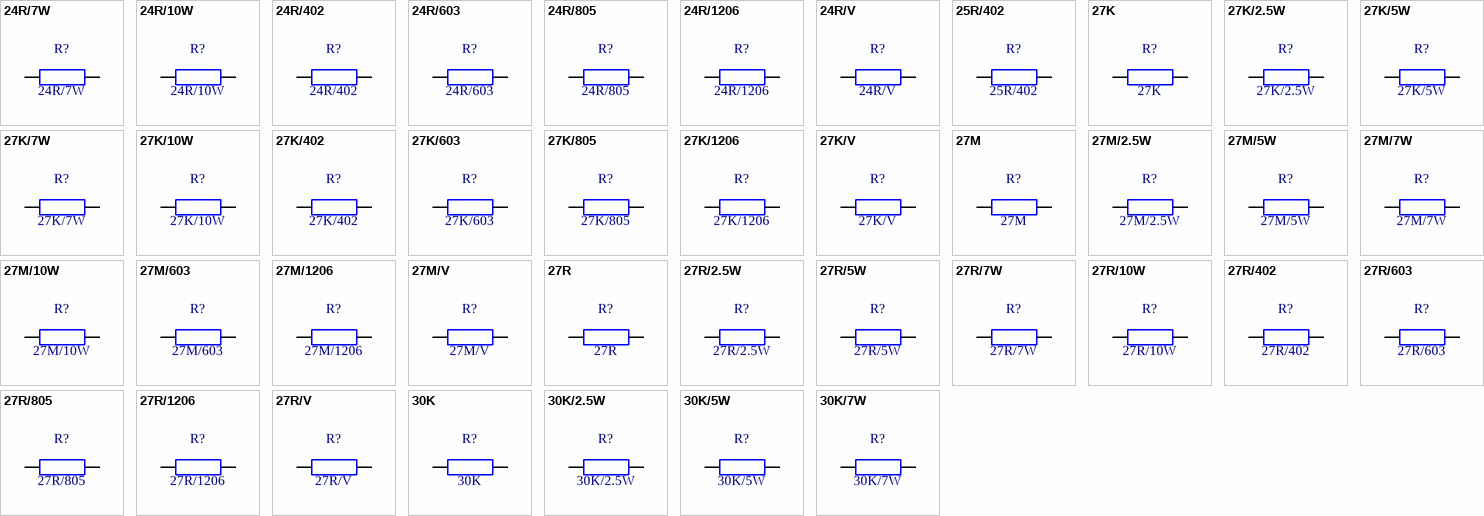
[diagram p57: symbols 24R/7W to 30K/7W]

## 24R/7W
designator R?
weerstand 24R 7W
footprint ws 7W H
pins: 1, 2

## 24R/10W
designator R?
weerstand 24R 10W
footprint ws 10W H
pins: 1, 2

## 24R/402
designator R?
weerstand SMD402, 24R
footprint smd C0402_0.35
pins: 1, 2

## 24R/603
designator R?
weerstand SMD603, 24R
footprint smd C0603_0.45
pins: 1, 2

## 24R/805
designator R?
weerstand SMD805, 24R
footprint smd C0805_0.50
pins: 1, 2

## 24R/1206
designator R?
weerstand SMD1206, 24R
footprint smd C1206_0.55
pins: 1, 2

## 24R/V
designator R?
weerstand 24R 0.6W, vertikaal
footprint ws 0.6W V
pins: 1, 2

## 25R/402
designator R?
weerstand SMD402, 25R
footprint smd C0402_0.35
pins: 1, 2

## 27K
designator R?
weerstand 27K 0.6W
footprint ws 0.6W H
pins: 1, 2

## 27K/2.5W
designator R?
weerstand 27K 2.5W
footprint ws 2.5W H
pins: 1, 2

## 27K/5W
designator R?
weerstand 27K 5W
footprint ws 5W H
pins: 1, 2

## 27K/7W
designator R?
weerstand 27K 7W
footprint ws 7W H
pins: 1, 2

## 27K/10W
designator R?
weerstand 27K 10W
footprint ws 10W H
pins: 1, 2

## 27K/402
designator R?
weerstand SMD402, 27K
footprint smd C0402_0.35
pins: 1, 2

## 27K/603
designator R?
weerstand SMD603, 27K
footprint smd C0603_0.45
pins: 1, 2

## 27K/805
designator R?
weerstand SMD805, 27K
footprint smd C0805_0.50
pins: 1, 2

## 27K/1206
designator R?
weerstand SMD1206, 27K
footprint smd C1206_0.55
pins: 1, 2

## 27K/V
designator R?
weerstand 27K 0.6W, vertikaal
footprint ws 0.6W V
pins: 1, 2

## 27M
designator R?
weerstand 27M 0.6W
footprint ws 0.6W H
pins: 1, 2

## 27M/2.5W
designator R?
weerstand 27M 2.5W
footprint ws 2.5W H
pins: 1, 2

## 27M/5W
designator R?
weerstand 27M 5W
footprint ws 5W H
pins: 1, 2

## 27M/7W
designator R?
weerstand 27M 7W
footprint ws 7W H
pins: 1, 2

## 27M/10W
designator R?
weerstand 27M 10W
footprint ws 10W H
pins: 1, 2

## 27M/603
designator R?
weerstand SMD603, 27M
footprint smd C0603_0.45
pins: 1, 2

## 27M/1206
designator R?
weerstand SMD1206, 27M
footprint smd C1206_0.55
pins: 1, 2

## 27M/V
designator R?
weerstand 27M 0.6W, vertikaal
footprint ws 0.6W V
pins: 1, 2

## 27R
designator R?
weerstand 27R 0.6W
footprint ws 0.6W H
pins: 1, 2

## 27R/2.5W
designator R?
weerstand 27R 2.5W
footprint ws 2.5W H
pins: 1, 2

## 27R/5W
designator R?
weerstand 27R 5W
footprint ws 5W H
pins: 1, 2

## 27R/7W
designator R?
weerstand 27R 7W
footprint ws 7W H
pins: 1, 2

## 27R/10W
designator R?
weerstand 27R 10W
footprint ws 10W H
pins: 1, 2

## 27R/402
designator R?
weerstand SMD402, 27R
footprint smd C0402_0.35
pins: 1, 2

## 27R/603
designator R?
weerstand SMD603, 27R
footprint smd C0603_0.45
pins: 1, 2

## 27R/805
designator R?
weerstand SMD805, 27R
footprint smd C0805_0.50
pins: 1, 2

## 27R/1206
designator R?
weerstand SMD1206, 27R
footprint smd C1206_0.55
pins: 1, 2

## 27R/V
designator R?
weerstand 27R 0.6W, vertikaal
footprint ws 0.6W V
pins: 1, 2

## 30K
designator R?
weerstand 30K 0.6W
footprint ws 0.6W H
pins: 1, 2

## 30K/2.5W
designator R?
weerstand 30K 2.5W
footprint ws 2.5W H
pins: 1, 2

## 30K/5W
designator R?
weerstand 30K 5W
footprint ws 5W H
pins: 1, 2

## 30K/7W
designator R?
weerstand 30K 7W
footprint ws 7W H
pins: 1, 2

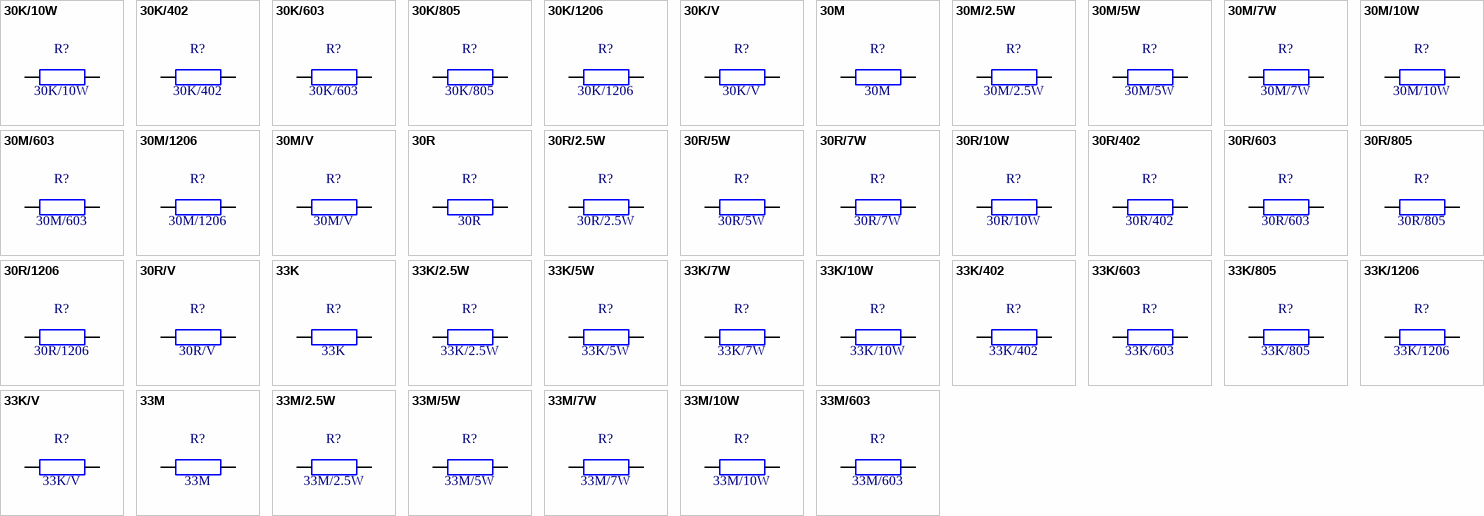
[diagram p58: symbols 30K/10W to 33M/603]

## 30K/10W
designator R?
weerstand 30K 10W
footprint ws 10W H
pins: 1, 2

## 30K/402
designator R?
weerstand SMD402, 30K
footprint smd C0402_0.35
pins: 1, 2

## 30K/603
designator R?
weerstand SMD603, 30K
footprint smd C0603_0.45
pins: 1, 2

## 30K/805
designator R?
weerstand SMD805, 30K
footprint smd C0805_0.50
pins: 1, 2

## 30K/1206
designator R?
weerstand SMD1206, 30K
footprint smd C1206_0.55
pins: 1, 2

## 30K/V
designator R?
weerstand 30K 0.6W, vertikaal
footprint ws 0.6W V
pins: 1, 2

## 30M
designator R?
weerstand 30M 0.6W
footprint ws 0.6W H
pins: 1, 2

## 30M/2.5W
designator R?
weerstand 30M 2.5W
footprint ws 2.5W H
pins: 1, 2

## 30M/5W
designator R?
weerstand 30M 5W
footprint ws 5W H
pins: 1, 2

## 30M/7W
designator R?
weerstand 30M 7W
footprint ws 7W H
pins: 1, 2

## 30M/10W
designator R?
weerstand 30M 10W
footprint ws 10W H
pins: 1, 2

## 30M/603
designator R?
weerstand SMD603, 30M
footprint smd C0603_0.45
pins: 1, 2

## 30M/1206
designator R?
weerstand SMD1206, 30M
footprint smd C1206_0.55
pins: 1, 2

## 30M/V
designator R?
weerstand 30M 0.6W, vertikaal
footprint ws 0.6W V
pins: 1, 2

## 30R
designator R?
weerstand 30R 0.6W
footprint ws 0.6W H
pins: 1, 2

## 30R/2.5W
designator R?
weerstand 30R 2.5W
footprint ws 2.5W H
pins: 1, 2

## 30R/5W
designator R?
weerstand 30R 5W
footprint ws 5W H
pins: 1, 2

## 30R/7W
designator R?
weerstand 30R 7W
footprint ws 7W H
pins: 1, 2

## 30R/10W
designator R?
weerstand 30R 10W
footprint ws 10W H
pins: 1, 2

## 30R/402
designator R?
weerstand SMD402, 30R
footprint smd C0402_0.35
pins: 1, 2

## 30R/603
designator R?
weerstand SMD603, 30R
footprint smd C0603_0.45
pins: 1, 2

## 30R/805
designator R?
weerstand SMD805, 30R
footprint smd C0805_0.50
pins: 1, 2

## 30R/1206
designator R?
weerstand SMD1206, 30R
footprint smd C1206_0.55
pins: 1, 2

## 30R/V
designator R?
weerstand 30R 0.6W, vertikaal
footprint ws 0.6W V
pins: 1, 2

## 33K
designator R?
weerstand 33K 0.6W
footprint ws 0.6W H
pins: 1, 2

## 33K/2.5W
designator R?
weerstand 33K 2.5W
footprint ws 2.5W H
pins: 1, 2

## 33K/5W
designator R?
weerstand 33K 5W
footprint ws 5W H
pins: 1, 2

## 33K/7W
designator R?
weerstand 33K 7W
footprint ws 7W H
pins: 1, 2

## 33K/10W
designator R?
weerstand 33K 10W
footprint ws 10W H
pins: 1, 2

## 33K/402
designator R?
weerstand SMD402, 33K
footprint smd C0402_0.35
pins: 1, 2

## 33K/603
designator R?
weerstand SMD603, 33K
footprint smd C0603_0.45
pins: 1, 2

## 33K/805
designator R?
weerstand SMD805, 33K
footprint smd C0805_0.50
pins: 1, 2

## 33K/1206
designator R?
weerstand SMD1206, 33K
footprint smd C1206_0.55
pins: 1, 2

## 33K/V
designator R?
weerstand 33K 0.6W, vertikaal
footprint ws 0.6W V
pins: 1, 2

## 33M
designator R?
weerstand 33M 0.6W
footprint ws 0.6W H
pins: 1, 2

## 33M/2.5W
designator R?
weerstand 33M 2.5W
footprint ws 2.5W H
pins: 1, 2

## 33M/5W
designator R?
weerstand 33M 5W
footprint ws 5W H
pins: 1, 2

## 33M/7W
designator R?
weerstand 33M 7W
footprint ws 7W H
pins: 1, 2

## 33M/10W
designator R?
weerstand 33M 10W
footprint ws 10W H
pins: 1, 2

## 33M/603
designator R?
weerstand SMD603, 33M
footprint smd C0603_0.45
pins: 1, 2

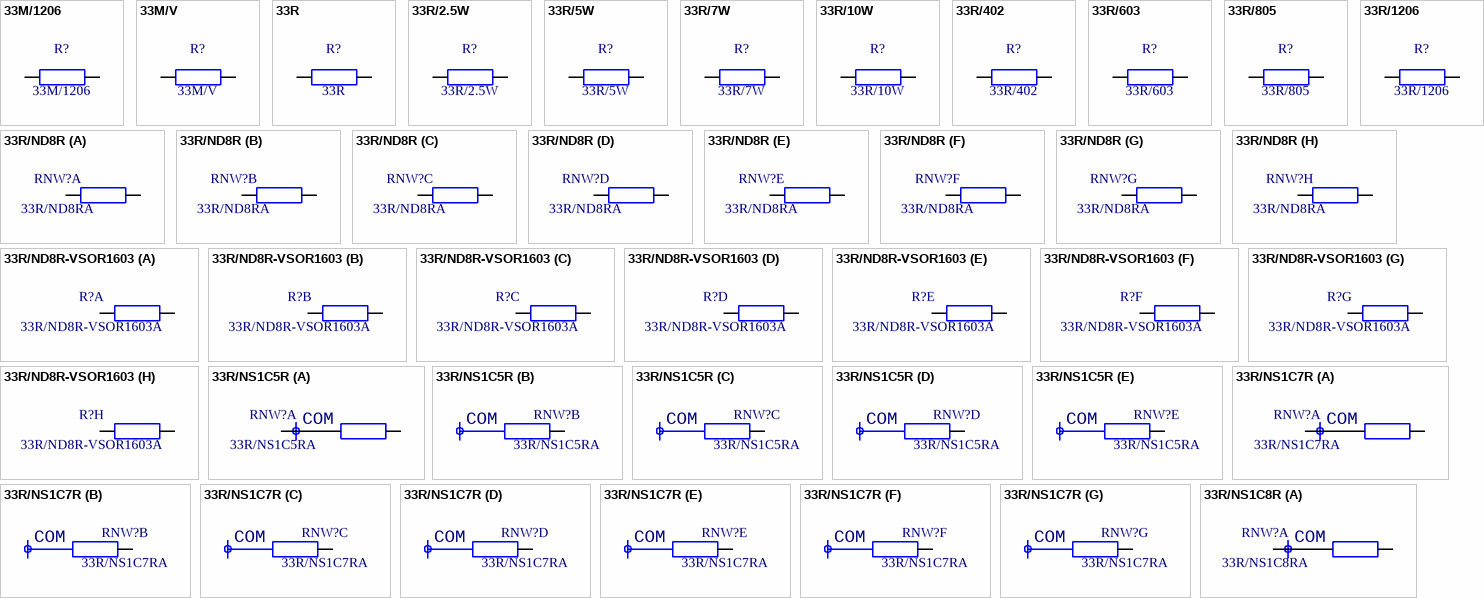
[diagram p59: symbols 33M/1206 to 33R/NS1C8R]

## 33M/1206
designator R?
weerstand SMD1206, 33M
footprint smd C1206_0.55
pins: 1, 2

## 33M/V
designator R?
weerstand 33M 0.6W, vertikaal
footprint ws 0.6W V
pins: 1, 2

## 33R
designator R?
weerstand 33R 0.6W
footprint ws 0.6W H
pins: 1, 2

## 33R/2.5W
designator R?
weerstand 33R 2.5W
footprint ws 2.5W H
pins: 1, 2

## 33R/5W
designator R?
weerstand 33R 5W
footprint ws 5W H
pins: 1, 2

## 33R/7W
designator R?
weerstand 33R 7W
footprint ws 7W H
pins: 1, 2

## 33R/10W
designator R?
weerstand 33R 10W
footprint ws 10W H
pins: 1, 2

## 33R/402
designator R?
weerstand SMD402, 33R
footprint smd C0402_0.35
pins: 1, 2

## 33R/603
designator R?
weerstand SMD603, 33R
footprint smd C0603_0.45
pins: 1, 2

## 33R/805
designator R?
weerstand SMD805, 33R
footprint smd C0805_0.50
pins: 1, 2

## 33R/1206
designator R?
weerstand SMD1206, 33R
footprint smd C1206_0.55
pins: 1, 2

## 33R/ND8R
designator RNW?, comment 33R/ND8RA
weerstandsnetwerk, DIL, 8 x 33R
footprint icv DIP16-300
part A pins: 1, 16
part B pins: 2, 15
part C pins: 3, 14
part D pins: 4, 13
part E pins: 5, 12
part F pins: 6, 11
part G pins: 7, 10
part H pins: 8, 9

## 33R/ND8R-VSOR1603
designator R?, comment 33R/ND8R-VSOR1603A
weerstandsnetwerk, DIL, smd, Vishay VSOR1603, 8 x 33R
footprint smd SOICN/16
part A pins: 1, 16
part B pins: 2, 15
part C pins: 3, 14
part D pins: 4, 13
part E pins: 5, 12
part F pins: 6, 11
part G pins: 7, 10
part H pins: 8, 9

## 33R/NS1C5R
designator RNW?, comment 33R/NS1C5RA
weerstandsnetwerk, SIL, 1 gemeens.pin, 5 weerst., 33R
footprint ws netwerk 5xR 1C (SIL)
part A pins: 1, 2
part B pins: 3
part C pins: 4
part D pins: 5
part E pins: 6
part A text: COM
part B text: COM
part C text: COM
part D text: COM
part E text: COM

## 33R/NS1C7R
designator RNW?, comment 33R/NS1C7RA
weerstandsnetwerk, SIL, 1 gemeens.pin, 7 weerst., 33R
footprint ws netwerk 7xR 1C (SIL)
part A pins: 1, 2
part B pins: 3
part C pins: 4
part D pins: 5
part E pins: 6
part F pins: 7
part G pins: 8
part A text: COM
part B text: COM
part C text: COM
part D text: COM
part E text: COM
part F text: COM
part G text: COM

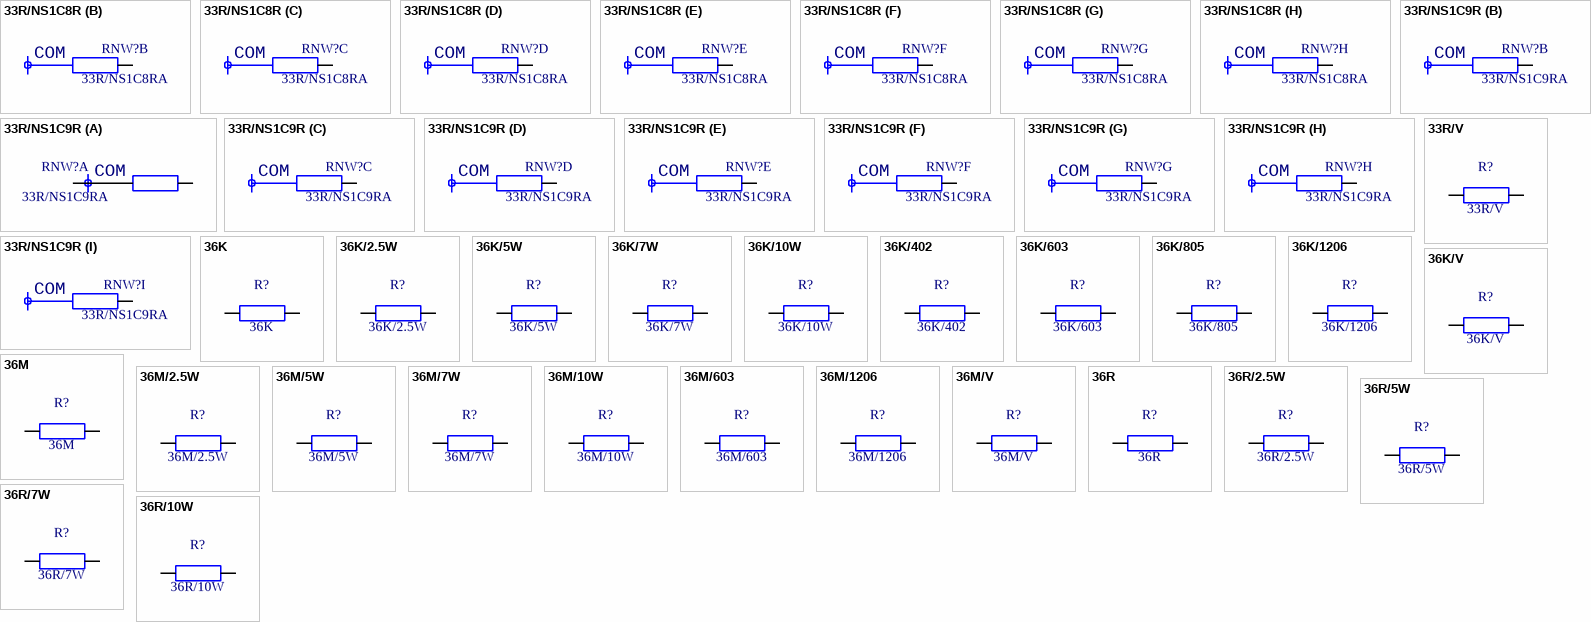
[diagram p60: symbols 33R/NS1C8R to 36R/10W]

## 33R/NS1C8R
designator RNW?, comment 33R/NS1C8RA
weerstandsnetwerk, SIL, 1 gemeens.pin, 8 weerst., 33R
footprint ws netwerk 8xR 1C (SIL)
part A pins: 1, 2
part B pins: 3
part C pins: 4
part D pins: 5
part E pins: 6
part F pins: 7
part G pins: 8
part H pins: 9
part A text: COM
part B text: COM
part C text: COM
part D text: COM
part E text: COM
part F text: COM
part G text: COM
part H text: COM

## 33R/NS1C9R
designator RNW?, comment 33R/NS1C9RA
weerstandsnetwerk, SIL, 1 gemeens.pin, 9 weerst., 33R
footprint ws netwerk 9xR 1C (SIL)
part A pins: 1, 2
part B pins: 3
part C pins: 4
part D pins: 5
part E pins: 6
part F pins: 7
part G pins: 8
part H pins: 9
part I pins: 10
part A text: COM
part B text: COM
part C text: COM
part D text: COM
part E text: COM
part F text: COM
part G text: COM
part H text: COM
part I text: COM

## 33R/V
designator R?
weerstand 33R 0.6W, vertikaal
footprint ws 0.6W V
pins: 1, 2

## 36K
designator R?
weerstand 36K 0.6W
footprint ws 0.6W H
pins: 1, 2

## 36K/2.5W
designator R?
weerstand 36K 2.5W
footprint ws 2.5W H
pins: 1, 2

## 36K/5W
designator R?
weerstand 36K 5W
footprint ws 5W H
pins: 1, 2

## 36K/7W
designator R?
weerstand 36K 7W
footprint ws 7W H
pins: 1, 2

## 36K/10W
designator R?
weerstand 36K 10W
footprint ws 10W H
pins: 1, 2

## 36K/402
designator R?
weerstand SMD402, 36K
footprint smd C0402_0.35
pins: 1, 2

## 36K/603
designator R?
weerstand SMD603, 36K
footprint smd C0603_0.45
pins: 1, 2

## 36K/805
designator R?
weerstand SMD805, 36K
footprint smd C0805_0.50
pins: 1, 2

## 36K/1206
designator R?
weerstand SMD1206, 36K
footprint smd C1206_0.55
pins: 1, 2

## 36K/V
designator R?
weerstand 36K 0.6W, vertikaal
footprint ws 0.6W V
pins: 1, 2

## 36M
designator R?
weerstand 36M 0.6W
footprint ws 0.6W H
pins: 1, 2

## 36M/2.5W
designator R?
weerstand 36M 2.5W
footprint ws 2.5W H
pins: 1, 2

## 36M/5W
designator R?
weerstand 36M 5W
footprint ws 5W H
pins: 1, 2

## 36M/7W
designator R?
weerstand 36M 7W
footprint ws 7W H
pins: 1, 2

## 36M/10W
designator R?
weerstand 36M 10W
footprint ws 10W H
pins: 1, 2

## 36M/603
designator R?
weerstand SMD603, 36M
footprint smd C0603_0.45
pins: 1, 2

## 36M/1206
designator R?
weerstand SMD1206, 36M
footprint smd C1206_0.55
pins: 1, 2

## 36M/V
designator R?
weerstand 36M 0.6W, vertikaal
footprint ws 0.6W V
pins: 1, 2

## 36R
designator R?
weerstand 36R 0.6W
footprint ws 0.6W H
pins: 1, 2

## 36R/2.5W
designator R?
weerstand 36R 2.5W
footprint ws 2.5W H
pins: 1, 2

## 36R/5W
designator R?
weerstand 36R 5W
footprint ws 5W H
pins: 1, 2

## 36R/7W
designator R?
weerstand 36R 7W
footprint ws 7W H
pins: 1, 2

## 36R/10W
designator R?
weerstand 36R 10W
footprint ws 10W H
pins: 1, 2

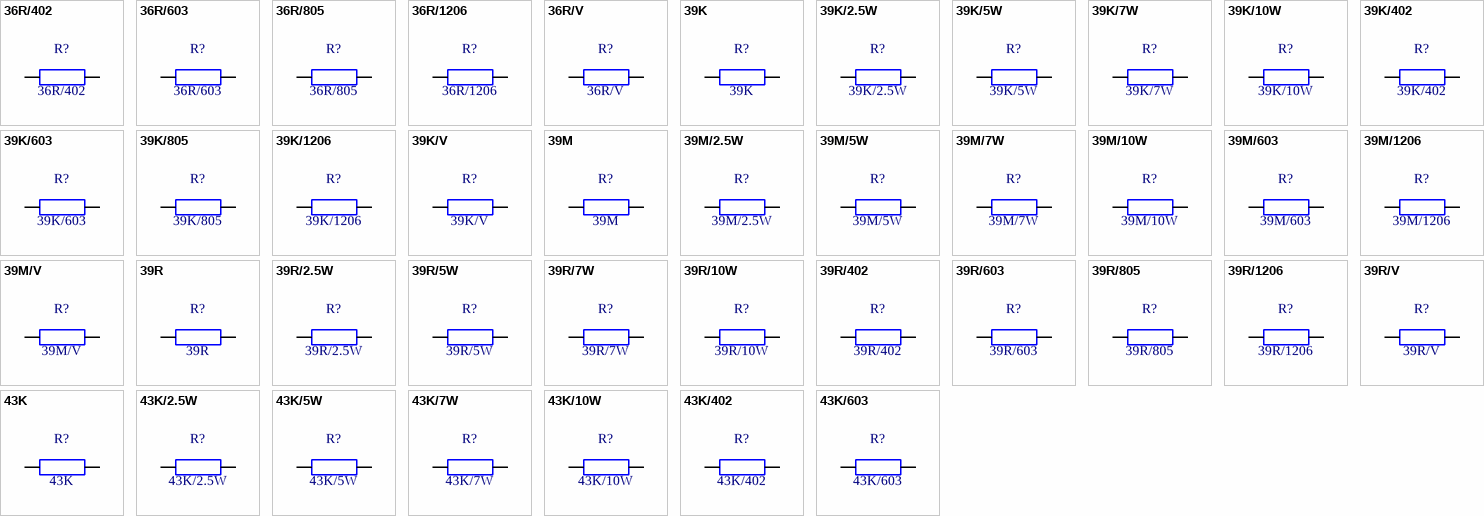
[diagram p61: symbols 36R/402 to 43K/603]

## 36R/402
designator R?
weerstand SMD402, 36R
footprint smd C0402_0.35
pins: 1, 2

## 36R/603
designator R?
weerstand SMD603, 36R
footprint smd C0603_0.45
pins: 1, 2

## 36R/805
designator R?
weerstand SMD805, 36R
footprint smd C0805_0.50
pins: 1, 2

## 36R/1206
designator R?
weerstand SMD1206, 36R
footprint smd C1206_0.55
pins: 1, 2

## 36R/V
designator R?
weerstand 36R 0.6W, vertikaal
footprint ws 0.6W V
pins: 1, 2

## 39K
designator R?
weerstand 39K 0.6W
footprint ws 0.6W H
pins: 1, 2

## 39K/2.5W
designator R?
weerstand 39K 2.5W
footprint ws 2.5W H
pins: 1, 2

## 39K/5W
designator R?
weerstand 39K 5W
footprint ws 5W H
pins: 1, 2

## 39K/7W
designator R?
weerstand 39K 7W
footprint ws 7W H
pins: 1, 2

## 39K/10W
designator R?
weerstand 39K 10W
footprint ws 10W H
pins: 1, 2

## 39K/402
designator R?
weerstand SMD402, 39K
footprint smd C0402_0.35
pins: 1, 2

## 39K/603
designator R?
weerstand SMD603, 39K
footprint smd C0603_0.45
pins: 1, 2

## 39K/805
designator R?
weerstand SMD805, 39K
footprint smd C0805_0.50
pins: 1, 2

## 39K/1206
designator R?
weerstand SMD1206, 39K
footprint smd C1206_0.55
pins: 1, 2

## 39K/V
designator R?
weerstand 39K 0.6W, vertikaal
footprint ws 0.6W V
pins: 1, 2

## 39M
designator R?
weerstand 39M 0.6W
footprint ws 0.6W H
pins: 1, 2

## 39M/2.5W
designator R?
weerstand 39M 2.5W
footprint ws 2.5W H
pins: 1, 2

## 39M/5W
designator R?
weerstand 39M 5W
footprint ws 5W H
pins: 1, 2

## 39M/7W
designator R?
weerstand 39M 7W
footprint ws 7W H
pins: 1, 2

## 39M/10W
designator R?
weerstand 39M 10W
footprint ws 10W H
pins: 1, 2

## 39M/603
designator R?
weerstand SMD603, 39M
footprint smd C0603_0.45
pins: 1, 2

## 39M/1206
designator R?
weerstand SMD1206, 39M
footprint smd C1206_0.55
pins: 1, 2

## 39M/V
designator R?
weerstand 39M 0.6W, vertikaal
footprint ws 0.6W V
pins: 1, 2

## 39R
designator R?
weerstand 39R 0.6W
footprint ws 0.6W H
pins: 1, 2

## 39R/2.5W
designator R?
weerstand 39R 2.5W
footprint ws 2.5W H
pins: 1, 2

## 39R/5W
designator R?
weerstand 39R 5W
footprint ws 5W H
pins: 1, 2

## 39R/7W
designator R?
weerstand 39R 7W
footprint ws 7W H
pins: 1, 2

## 39R/10W
designator R?
weerstand 39R 10W
footprint ws 10W H
pins: 1, 2

## 39R/402
designator R?
weerstand SMD402, 39R
footprint smd C0402_0.35
pins: 1, 2

## 39R/603
designator R?
weerstand SMD603, 39R
footprint smd C0603_0.45
pins: 1, 2

## 39R/805
designator R?
weerstand SMD805, 39R
footprint smd C0805_0.50
pins: 1, 2

## 39R/1206
designator R?
weerstand SMD1206, 39R
footprint smd C1206_0.55
pins: 1, 2

## 39R/V
designator R?
weerstand 39R 0.6W, vertikaal
footprint ws 0.6W V
pins: 1, 2

## 43K
designator R?
weerstand 43K 0.6W
footprint ws 0.6W H
pins: 1, 2

## 43K/2.5W
designator R?
weerstand 43K 2.5W
footprint ws 2.5W H
pins: 1, 2

## 43K/5W
designator R?
weerstand 43K 5W
footprint ws 5W H
pins: 1, 2

## 43K/7W
designator R?
weerstand 43K 7W
footprint ws 7W H
pins: 1, 2

## 43K/10W
designator R?
weerstand 43K 10W
footprint ws 10W H
pins: 1, 2

## 43K/402
designator R?
weerstand SMD402, 43K
footprint smd C0402_0.35
pins: 1, 2

## 43K/603
designator R?
weerstand SMD603, 43K
footprint smd C0603_0.45
pins: 1, 2

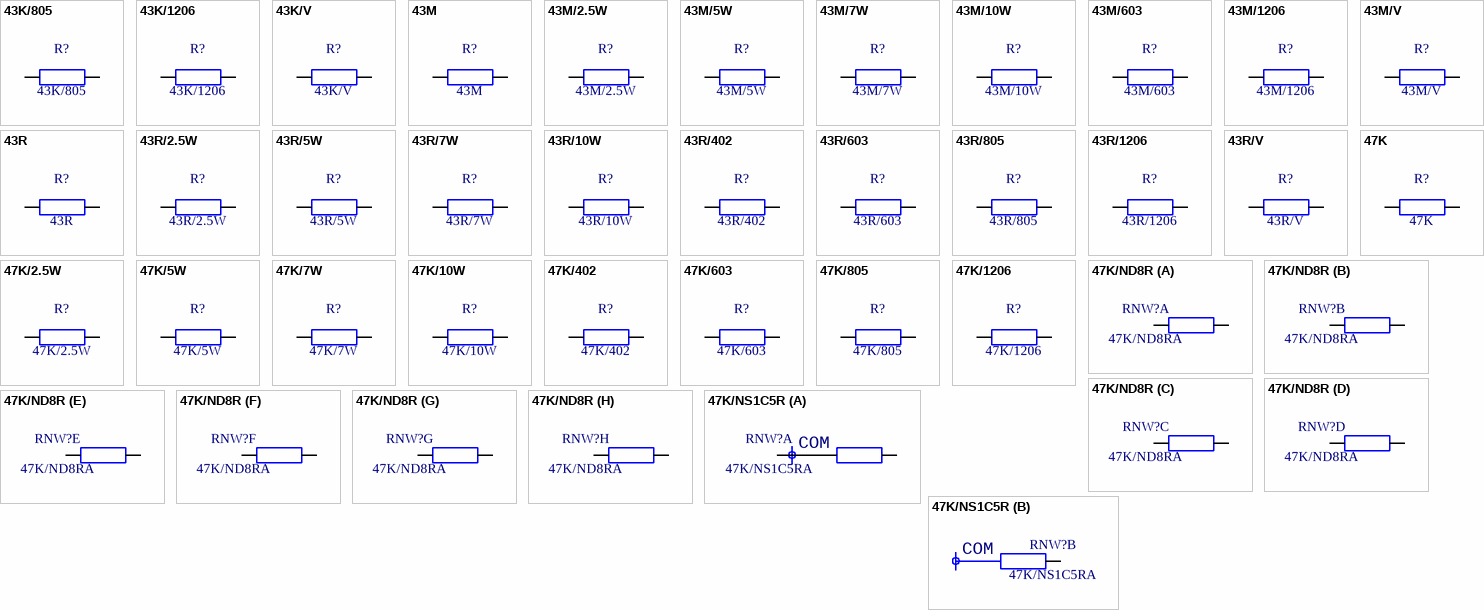
[diagram p62: symbols 43K/805 to 47K/NS1C5R]

## 43K/805
designator R?
weerstand SMD805, 43K
footprint smd C0805_0.50
pins: 1, 2

## 43K/1206
designator R?
weerstand SMD1206, 43K
footprint smd C1206_0.55
pins: 1, 2

## 43K/V
designator R?
weerstand 43K 0.6W, vertikaal
footprint ws 0.6W V
pins: 1, 2

## 43M
designator R?
weerstand 43M 0.6W
footprint ws 0.6W H
pins: 1, 2

## 43M/2.5W
designator R?
weerstand 43M 2.5W
footprint ws 2.5W H
pins: 1, 2

## 43M/5W
designator R?
weerstand 43M 5W
footprint ws 5W H
pins: 1, 2

## 43M/7W
designator R?
weerstand 43M 7W
footprint ws 7W H
pins: 1, 2

## 43M/10W
designator R?
weerstand 43M 10W
footprint ws 10W H
pins: 1, 2

## 43M/603
designator R?
weerstand SMD603, 43M
footprint smd C0603_0.45
pins: 1, 2

## 43M/1206
designator R?
weerstand SMD1206, 43M
footprint smd C1206_0.55
pins: 1, 2

## 43M/V
designator R?
weerstand 43M 0.6W, vertikaal
footprint ws 0.6W V
pins: 1, 2

## 43R
designator R?
weerstand 43R 0.6W
footprint ws 0.6W H
pins: 1, 2

## 43R/2.5W
designator R?
weerstand 43R 2.5W
footprint ws 2.5W H
pins: 1, 2

## 43R/5W
designator R?
weerstand 43R 5W
footprint ws 5W H
pins: 1, 2

## 43R/7W
designator R?
weerstand 43R 7W
footprint ws 7W H
pins: 1, 2

## 43R/10W
designator R?
weerstand 43R 10W
footprint ws 10W H
pins: 1, 2

## 43R/402
designator R?
weerstand SMD402, 43R
footprint smd C0402_0.35
pins: 1, 2

## 43R/603
designator R?
weerstand SMD603, 43R
footprint smd C0603_0.45
pins: 1, 2

## 43R/805
designator R?
weerstand SMD805, 43R
footprint smd C0805_0.50
pins: 1, 2

## 43R/1206
designator R?
weerstand SMD1206, 43R
footprint smd C1206_0.55
pins: 1, 2

## 43R/V
designator R?
weerstand 43R 0.6W, vertikaal
footprint ws 0.6W V
pins: 1, 2

## 47K
designator R?
weerstand 47K 0.6W
footprint ws 0.6W H
pins: 1, 2

## 47K/2.5W
designator R?
weerstand 47K 2.5W
footprint ws 2.5W H
pins: 1, 2

## 47K/5W
designator R?
weerstand 47K 5W
footprint ws 5W H
pins: 1, 2

## 47K/7W
designator R?
weerstand 47K 7W
footprint ws 7W H
pins: 1, 2

## 47K/10W
designator R?
weerstand 47K 10W
footprint ws 10W H
pins: 1, 2

## 47K/402
designator R?
weerstand SMD402, 47K
footprint smd C0402_0.35
pins: 1, 2

## 47K/603
designator R?
weerstand SMD603, 47K
footprint smd C0603_0.45
pins: 1, 2

## 47K/805
designator R?
weerstand SMD805, 47K
footprint smd C0805_0.50
pins: 1, 2

## 47K/1206
designator R?
weerstand SMD1206, 47K
footprint smd C1206_0.55
pins: 1, 2

## 47K/ND8R
designator RNW?, comment 47K/ND8RA
weerstandsnetwerk, DIL, 8 x 47K
footprint icv DIP16-300
part A pins: 1, 16
part B pins: 2, 15
part C pins: 3, 14
part D pins: 4, 13
part E pins: 5, 12
part F pins: 6, 11
part G pins: 7, 10
part H pins: 8, 9

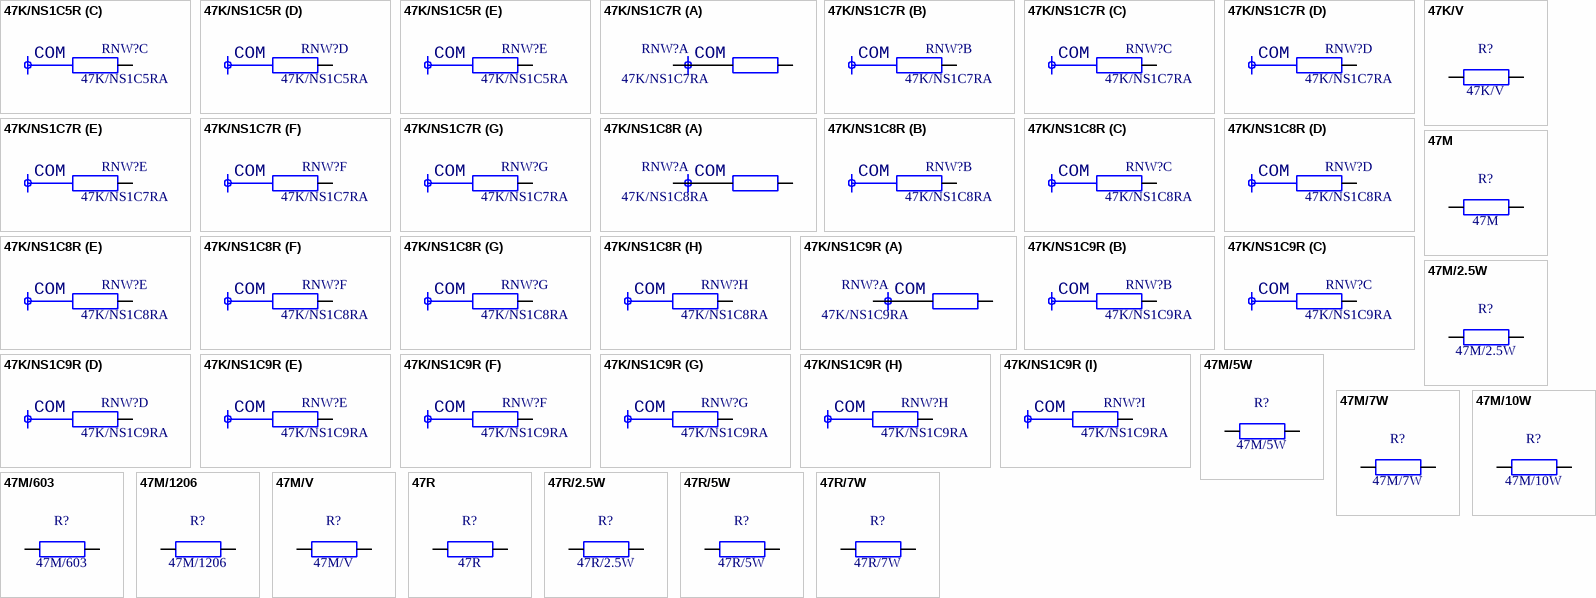
[diagram p63: symbols 47K/NS1C5R to 47R/7W]

## 47K/NS1C5R
designator RNW?, comment 47K/NS1C5RA
weerstandsnetwerk, SIL, 1 gemeens.pin, 5 weerst., 47K
footprint ws netwerk 5xR 1C (SIL)
part A pins: 1, 2
part B pins: 3
part C pins: 4
part D pins: 5
part E pins: 6
part A text: COM
part B text: COM
part C text: COM
part D text: COM
part E text: COM

## 47K/NS1C7R
designator RNW?, comment 47K/NS1C7RA
weerstandsnetwerk, SIL, 1 gemeens.pin, 7 weerst., 47K
footprint ws netwerk 7xR 1C (SIL)
part A pins: 1, 2
part B pins: 3
part C pins: 4
part D pins: 5
part E pins: 6
part F pins: 7
part G pins: 8
part A text: COM
part B text: COM
part C text: COM
part D text: COM
part E text: COM
part F text: COM
part G text: COM

## 47K/NS1C8R
designator RNW?, comment 47K/NS1C8RA
weerstandsnetwerk, SIL, 1 gemeens.pin, 8 weerst., 47K
footprint ws netwerk 8xR 1C (SIL)
part A pins: 1, 2
part B pins: 3
part C pins: 4
part D pins: 5
part E pins: 6
part F pins: 7
part G pins: 8
part H pins: 9
part A text: COM
part B text: COM
part C text: COM
part D text: COM
part E text: COM
part F text: COM
part G text: COM
part H text: COM

## 47K/NS1C9R
designator RNW?, comment 47K/NS1C9RA
weerstandsnetwerk, SIL, 1 gemeens.pin, 9 weerst., 47K
footprint ws netwerk 9xR 1C (SIL)
part A pins: 1, 2
part B pins: 3
part C pins: 4
part D pins: 5
part E pins: 6
part F pins: 7
part G pins: 8
part H pins: 9
part I pins: 10
part A text: COM
part B text: COM
part C text: COM
part D text: COM
part E text: COM
part F text: COM
part G text: COM
part H text: COM
part I text: COM

## 47K/V
designator R?
weerstand 47K 0.6W, vertikaal
footprint ws 0.6W V
pins: 1, 2

## 47M
designator R?
weerstand 47M 0.6W
footprint ws 0.6W H
pins: 1, 2

## 47M/2.5W
designator R?
weerstand 47M 2.5W
footprint ws 2.5W H
pins: 1, 2

## 47M/5W
designator R?
weerstand 47M 5W
footprint ws 5W H
pins: 1, 2

## 47M/7W
designator R?
weerstand 47M 7W
footprint ws 7W H
pins: 1, 2

## 47M/10W
designator R?
weerstand 47M 10W
footprint ws 10W H
pins: 1, 2

## 47M/603
designator R?
weerstand SMD603, 47M
footprint smd C0603_0.45
pins: 1, 2

## 47M/1206
designator R?
weerstand SMD1206, 47M
footprint smd C1206_0.55
pins: 1, 2

## 47M/V
designator R?
weerstand 47M 0.6W, vertikaal
footprint ws 0.6W V
pins: 1, 2

## 47R
designator R?
weerstand 47R 0.6W
footprint ws 0.6W H
pins: 1, 2

## 47R/2.5W
designator R?
weerstand 47R 2.5W
footprint ws 2.5W H
pins: 1, 2

## 47R/5W
designator R?
weerstand 47R 5W
footprint ws 5W H
pins: 1, 2

## 47R/7W
designator R?
weerstand 47R 7W
footprint ws 7W H
pins: 1, 2

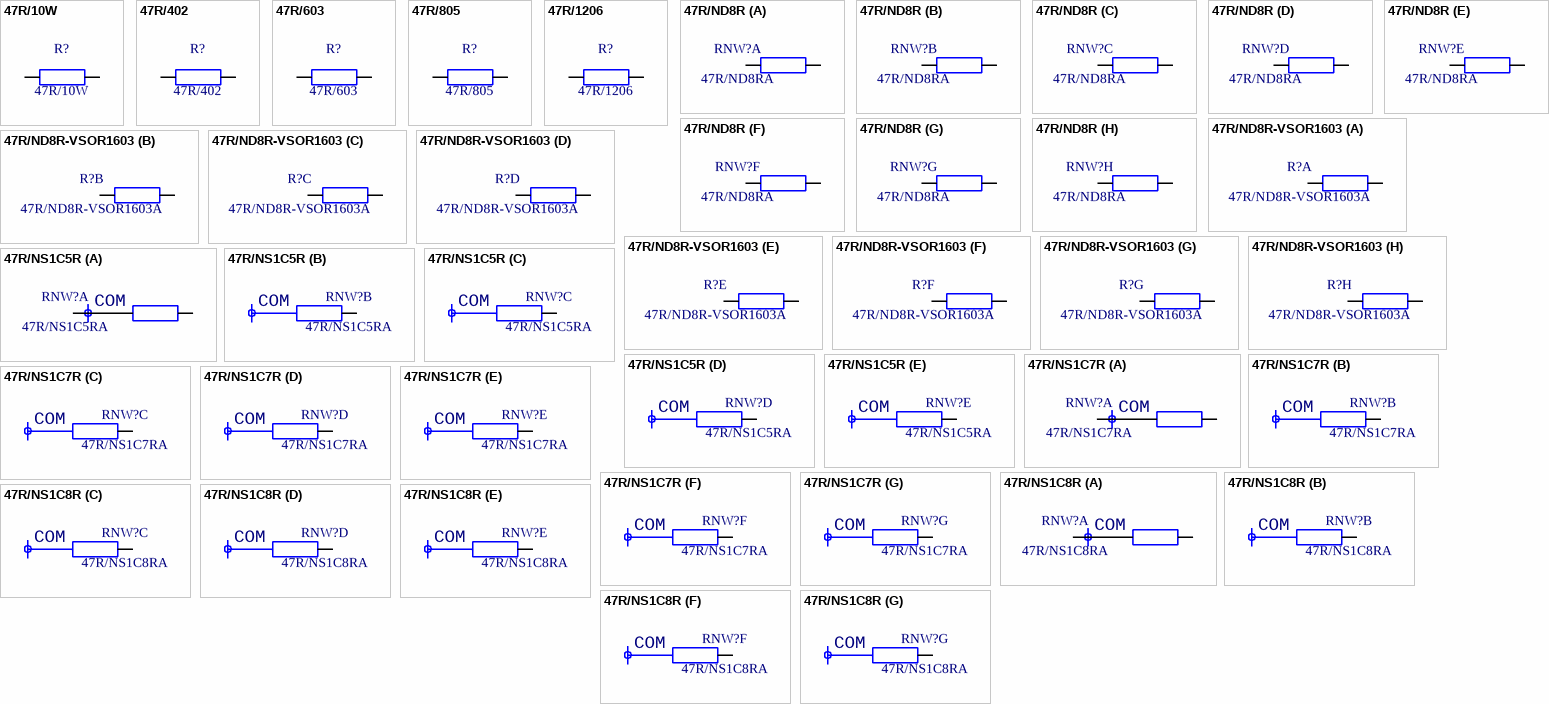
[diagram p64: symbols 47R/10W to 47R/NS1C8R]

## 47R/10W
designator R?
weerstand 47R 10W
footprint ws 10W H
pins: 1, 2

## 47R/402
designator R?
weerstand SMD402, 47R
footprint smd C0402_0.35
pins: 1, 2

## 47R/603
designator R?
weerstand SMD603, 47R
footprint smd C0603_0.45
pins: 1, 2

## 47R/805
designator R?
weerstand SMD805, 47R
footprint smd C0805_0.50
pins: 1, 2

## 47R/1206
designator R?
weerstand SMD1206, 47R
footprint smd C1206_0.55
pins: 1, 2

## 47R/ND8R
designator RNW?, comment 47R/ND8RA
weerstandsnetwerk, DIL, 8 x 47R
footprint icv DIP16-300
part A pins: 1, 16
part B pins: 2, 15
part C pins: 3, 14
part D pins: 4, 13
part E pins: 5, 12
part F pins: 6, 11
part G pins: 7, 10
part H pins: 8, 9

## 47R/ND8R-VSOR1603
designator R?, comment 47R/ND8R-VSOR1603A
weerstandsnetwerk, DIL, smd, Vishay VSOR1603, 8 x 47R
footprint smd SOICN/16
part A pins: 1, 16
part B pins: 2, 15
part C pins: 3, 14
part D pins: 4, 13
part E pins: 5, 12
part F pins: 6, 11
part G pins: 7, 10
part H pins: 8, 9

## 47R/NS1C5R
designator RNW?, comment 47R/NS1C5RA
weerstandsnetwerk, SIL, 1 gemeens.pin, 5 weerst., 47R
footprint ws netwerk 5xR 1C (SIL)
part A pins: 1, 2
part B pins: 3
part C pins: 4
part D pins: 5
part E pins: 6
part A text: COM
part B text: COM
part C text: COM
part D text: COM
part E text: COM

## 47R/NS1C7R
designator RNW?, comment 47R/NS1C7RA
weerstandsnetwerk, SIL, 1 gemeens.pin, 7 weerst., 47R
footprint ws netwerk 7xR 1C (SIL)
part A pins: 1, 2
part B pins: 3
part C pins: 4
part D pins: 5
part E pins: 6
part F pins: 7
part G pins: 8
part A text: COM
part B text: COM
part C text: COM
part D text: COM
part E text: COM
part F text: COM
part G text: COM

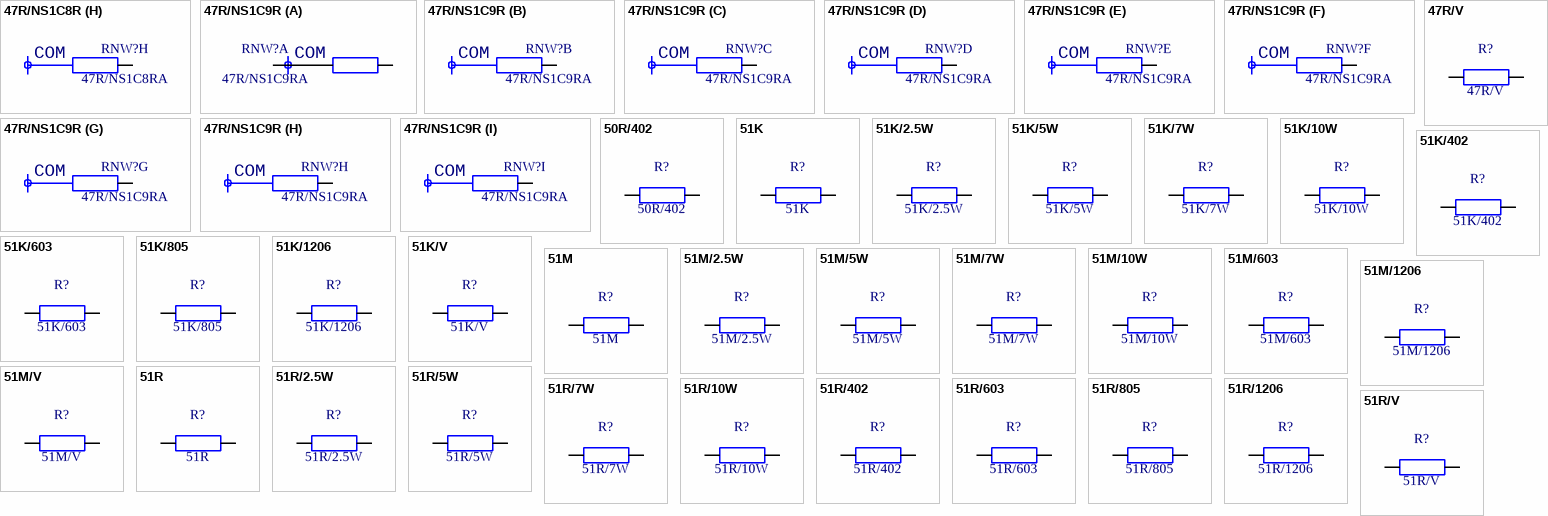
[diagram p65: symbols 47R/NS1C8R to 51R/V]

## 47R/NS1C8R
designator RNW?, comment 47R/NS1C8RA
weerstandsnetwerk, SIL, 1 gemeens.pin, 8 weerst., 47R
footprint ws netwerk 8xR 1C (SIL)
part A pins: 1, 2
part B pins: 3
part C pins: 4
part D pins: 5
part E pins: 6
part F pins: 7
part G pins: 8
part H pins: 9
part A text: COM
part B text: COM
part C text: COM
part D text: COM
part E text: COM
part F text: COM
part G text: COM
part H text: COM

## 47R/NS1C9R
designator RNW?, comment 47R/NS1C9RA
weerstandsnetwerk, SIL, 1 gemeens.pin, 9 weerst., 47R
footprint ws netwerk 9xR 1C (SIL)
part A pins: 1, 2
part B pins: 3
part C pins: 4
part D pins: 5
part E pins: 6
part F pins: 7
part G pins: 8
part H pins: 9
part I pins: 10
part A text: COM
part B text: COM
part C text: COM
part D text: COM
part E text: COM
part F text: COM
part G text: COM
part H text: COM
part I text: COM

## 47R/V
designator R?
weerstand 47R 0.6W, vertikaal
footprint ws 0.6W V
pins: 1, 2

## 50R/402
designator R?
weerstand SMD402, 50R
footprint smd C0402_0.35
pins: 1, 2

## 51K
designator R?
weerstand 51K 0.6W
footprint ws 0.6W H
pins: 1, 2

## 51K/2.5W
designator R?
weerstand 51K 2.5W
footprint ws 2.5W H
pins: 1, 2

## 51K/5W
designator R?
weerstand 51K 5W
footprint ws 5W H
pins: 1, 2

## 51K/7W
designator R?
weerstand 51K 7W
footprint ws 7W H
pins: 1, 2

## 51K/10W
designator R?
weerstand 51K 10W
footprint ws 10W H
pins: 1, 2

## 51K/402
designator R?
weerstand SMD402, 51K
footprint smd C0402_0.35
pins: 1, 2

## 51K/603
designator R?
weerstand SMD603, 51K
footprint smd C0603_0.45
pins: 1, 2

## 51K/805
designator R?
weerstand SMD805, 51K
footprint smd C0805_0.50
pins: 1, 2

## 51K/1206
designator R?
weerstand SMD1206, 51K
footprint smd C1206_0.55
pins: 1, 2

## 51K/V
designator R?
weerstand 51K 0.6W, vertikaal
footprint ws 0.6W V
pins: 1, 2

## 51M
designator R?
weerstand 51M 0.6W
footprint ws 0.6W H
pins: 1, 2

## 51M/2.5W
designator R?
weerstand 51M 2.5W
footprint ws 2.5W H
pins: 1, 2

## 51M/5W
designator R?
weerstand 51M 5W
footprint ws 5W H
pins: 1, 2

## 51M/7W
designator R?
weerstand 51M 7W
footprint ws 7W H
pins: 1, 2

## 51M/10W
designator R?
weerstand 51M 10W
footprint ws 10W H
pins: 1, 2

## 51M/603
designator R?
weerstand SMD603, 51M
footprint smd C0603_0.45
pins: 1, 2

## 51M/1206
designator R?
weerstand SMD1206, 51M
footprint smd C1206_0.55
pins: 1, 2

## 51M/V
designator R?
weerstand 51M 0.6W, vertikaal
footprint ws 0.6W V
pins: 1, 2

## 51R
designator R?
weerstand 51R 0.6W
footprint ws 0.6W H
pins: 1, 2

## 51R/2.5W
designator R?
weerstand 51R 2.5W
footprint ws 2.5W H
pins: 1, 2

## 51R/5W
designator R?
weerstand 51R 5W
footprint ws 5W H
pins: 1, 2

## 51R/7W
designator R?
weerstand 51R 7W
footprint ws 7W H
pins: 1, 2

## 51R/10W
designator R?
weerstand 51R 10W
footprint ws 10W H
pins: 1, 2

## 51R/402
designator R?
weerstand SMD402, 51R
footprint smd C0402_0.35
pins: 1, 2

## 51R/603
designator R?
weerstand SMD603, 51R
footprint smd C0603_0.45
pins: 1, 2

## 51R/805
designator R?
weerstand SMD805, 51R
footprint smd C0805_0.50
pins: 1, 2

## 51R/1206
designator R?
weerstand SMD1206, 51R
footprint smd C1206_0.55
pins: 1, 2

## 51R/V
designator R?
weerstand 51R 0.6W, vertikaal
footprint ws 0.6W V
pins: 1, 2

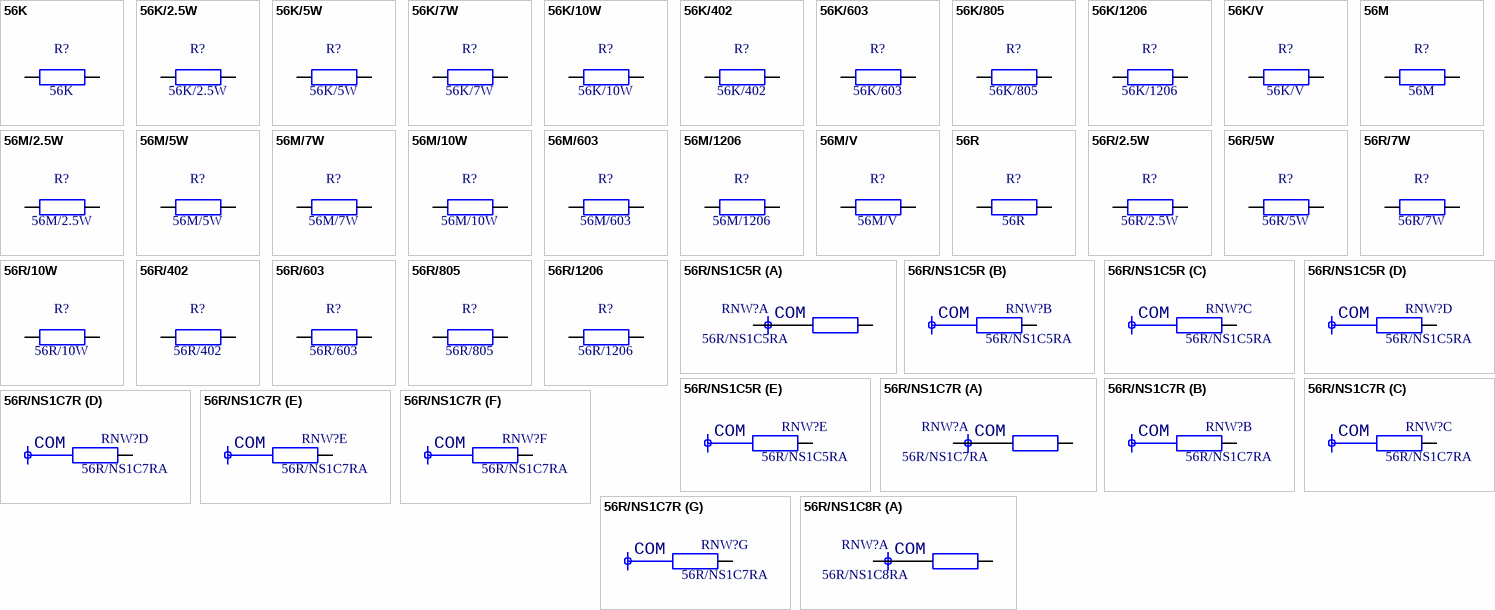
[diagram p66: symbols 56K to 56R/NS1C8R]

## 56K
designator R?
weerstand 56K 0.6W
footprint ws 0.6W H
pins: 1, 2

## 56K/2.5W
designator R?
weerstand 56K 2.5W
footprint ws 2.5W H
pins: 1, 2

## 56K/5W
designator R?
weerstand 56K 5W
footprint ws 5W H
pins: 1, 2

## 56K/7W
designator R?
weerstand 56K 7W
footprint ws 7W H
pins: 1, 2

## 56K/10W
designator R?
weerstand 56K 10W
footprint ws 10W H
pins: 1, 2

## 56K/402
designator R?
weerstand SMD402, 56K
footprint smd C0402_0.35
pins: 1, 2

## 56K/603
designator R?
weerstand SMD603, 56K
footprint smd C0603_0.45
pins: 1, 2

## 56K/805
designator R?
weerstand SMD805, 56K
footprint smd C0805_0.50
pins: 1, 2

## 56K/1206
designator R?
weerstand SMD1206, 56K
footprint smd C1206_0.55
pins: 1, 2

## 56K/V
designator R?
weerstand 56K 0.6W, vertikaal
footprint ws 0.6W V
pins: 1, 2

## 56M
designator R?
weerstand 56M 0.6W
footprint ws 0.6W H
pins: 1, 2

## 56M/2.5W
designator R?
weerstand 56M 2.5W
footprint ws 2.5W H
pins: 1, 2

## 56M/5W
designator R?
weerstand 56M 5W
footprint ws 5W H
pins: 1, 2

## 56M/7W
designator R?
weerstand 56M 7W
footprint ws 7W H
pins: 1, 2

## 56M/10W
designator R?
weerstand 56M 10W
footprint ws 10W H
pins: 1, 2

## 56M/603
designator R?
weerstand SMD603, 56M
footprint smd C0603_0.45
pins: 1, 2

## 56M/1206
designator R?
weerstand SMD1206, 56M
footprint smd C1206_0.55
pins: 1, 2

## 56M/V
designator R?
weerstand 56M 0.6W, vertikaal
footprint ws 0.6W V
pins: 1, 2

## 56R
designator R?
weerstand 56R 0.6W
footprint ws 0.6W H
pins: 1, 2

## 56R/2.5W
designator R?
weerstand 56R 2.5W
footprint ws 2.5W H
pins: 1, 2

## 56R/5W
designator R?
weerstand 56R 5W
footprint ws 5W H
pins: 1, 2

## 56R/7W
designator R?
weerstand 56R 7W
footprint ws 7W H
pins: 1, 2

## 56R/10W
designator R?
weerstand 56R 10W
footprint ws 10W H
pins: 1, 2

## 56R/402
designator R?
weerstand SMD402, 56R
footprint smd C0402_0.35
pins: 1, 2

## 56R/603
designator R?
weerstand SMD603, 56R
footprint smd C0603_0.45
pins: 1, 2

## 56R/805
designator R?
weerstand SMD805, 56R
footprint smd C0805_0.50
pins: 1, 2

## 56R/1206
designator R?
weerstand SMD1206, 56R
footprint smd C1206_0.55
pins: 1, 2

## 56R/NS1C5R
designator RNW?, comment 56R/NS1C5RA
weerstandsnetwerk, SIL, 1 gemeens.pin, 5 weerst., 56R
footprint ws netwerk 5xR 1C (SIL)
part A pins: 1, 2
part B pins: 3
part C pins: 4
part D pins: 5
part E pins: 6
part A text: COM
part B text: COM
part C text: COM
part D text: COM
part E text: COM

## 56R/NS1C7R
designator RNW?, comment 56R/NS1C7RA
weerstandsnetwerk, SIL, 1 gemeens.pin, 7 weerst., 56R
footprint ws netwerk 7xR 1C (SIL)
part A pins: 1, 2
part B pins: 3
part C pins: 4
part D pins: 5
part E pins: 6
part F pins: 7
part G pins: 8
part A text: COM
part B text: COM
part C text: COM
part D text: COM
part E text: COM
part F text: COM
part G text: COM

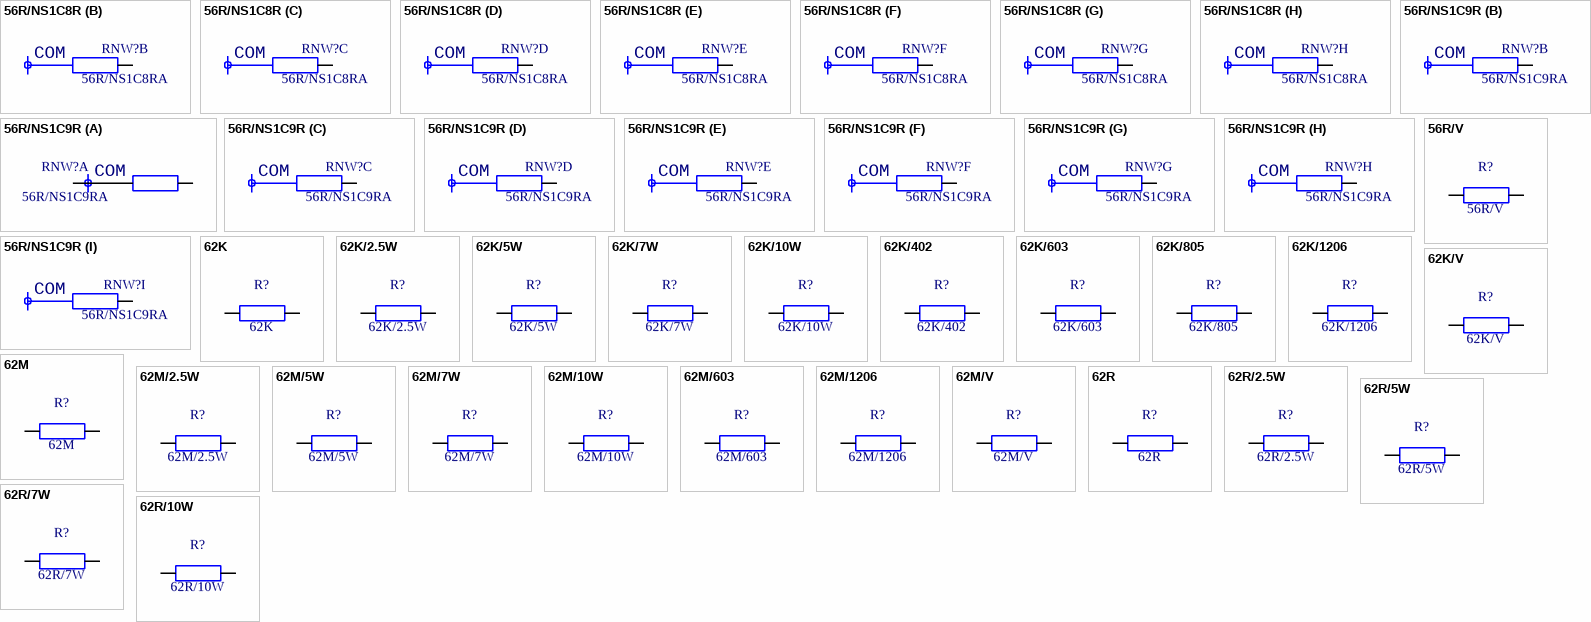
[diagram p67: symbols 56R/NS1C8R to 62R/10W]

## 56R/NS1C8R
designator RNW?, comment 56R/NS1C8RA
weerstandsnetwerk, SIL, 1 gemeens.pin, 8 weerst., 56R
footprint ws netwerk 8xR 1C (SIL)
part A pins: 1, 2
part B pins: 3
part C pins: 4
part D pins: 5
part E pins: 6
part F pins: 7
part G pins: 8
part H pins: 9
part A text: COM
part B text: COM
part C text: COM
part D text: COM
part E text: COM
part F text: COM
part G text: COM
part H text: COM

## 56R/NS1C9R
designator RNW?, comment 56R/NS1C9RA
weerstandsnetwerk, SIL, 1 gemeens.pin, 9 weerst., 56R
footprint ws netwerk 9xR 1C (SIL)
part A pins: 1, 2
part B pins: 3
part C pins: 4
part D pins: 5
part E pins: 6
part F pins: 7
part G pins: 8
part H pins: 9
part I pins: 10
part A text: COM
part B text: COM
part C text: COM
part D text: COM
part E text: COM
part F text: COM
part G text: COM
part H text: COM
part I text: COM

## 56R/V
designator R?
weerstand 56R 0.6W, vertikaal
footprint ws 0.6W V
pins: 1, 2

## 62K
designator R?
weerstand 62K 0.6W
footprint ws 0.6W H
pins: 1, 2

## 62K/2.5W
designator R?
weerstand 62K 2.5W
footprint ws 2.5W H
pins: 1, 2

## 62K/5W
designator R?
weerstand 62K 5W
footprint ws 5W H
pins: 1, 2

## 62K/7W
designator R?
weerstand 62K 7W
footprint ws 7W H
pins: 1, 2

## 62K/10W
designator R?
weerstand 62K 10W
footprint ws 10W H
pins: 1, 2

## 62K/402
designator R?
weerstand SMD402, 62K
footprint smd C0402_0.35
pins: 1, 2

## 62K/603
designator R?
weerstand SMD603, 62K
footprint smd C0603_0.45
pins: 1, 2

## 62K/805
designator R?
weerstand SMD805, 62K
footprint smd C0805_0.50
pins: 1, 2

## 62K/1206
designator R?
weerstand SMD1206, 62K
footprint smd C1206_0.55
pins: 1, 2

## 62K/V
designator R?
weerstand 62K 0.6W, vertikaal
footprint ws 0.6W V
pins: 1, 2

## 62M
designator R?
weerstand 62M 0.6W
footprint ws 0.6W H
pins: 1, 2

## 62M/2.5W
designator R?
weerstand 62M 2.5W
footprint ws 2.5W H
pins: 1, 2

## 62M/5W
designator R?
weerstand 62M 5W
footprint ws 5W H
pins: 1, 2

## 62M/7W
designator R?
weerstand 62M 7W
footprint ws 7W H
pins: 1, 2

## 62M/10W
designator R?
weerstand 62M 10W
footprint ws 10W H
pins: 1, 2

## 62M/603
designator R?
weerstand SMD603, 62M
footprint smd C0603_0.45
pins: 1, 2

## 62M/1206
designator R?
weerstand SMD1206, 62M
footprint smd C1206_0.55
pins: 1, 2

## 62M/V
designator R?
weerstand 62M 0.6W, vertikaal
footprint ws 0.6W V
pins: 1, 2

## 62R
designator R?
weerstand 62R 0.6W
footprint ws 0.6W H
pins: 1, 2

## 62R/2.5W
designator R?
weerstand 62R 2.5W
footprint ws 2.5W H
pins: 1, 2

## 62R/5W
designator R?
weerstand 62R 5W
footprint ws 5W H
pins: 1, 2

## 62R/7W
designator R?
weerstand 62R 7W
footprint ws 7W H
pins: 1, 2

## 62R/10W
designator R?
weerstand 62R 10W
footprint ws 10W H
pins: 1, 2

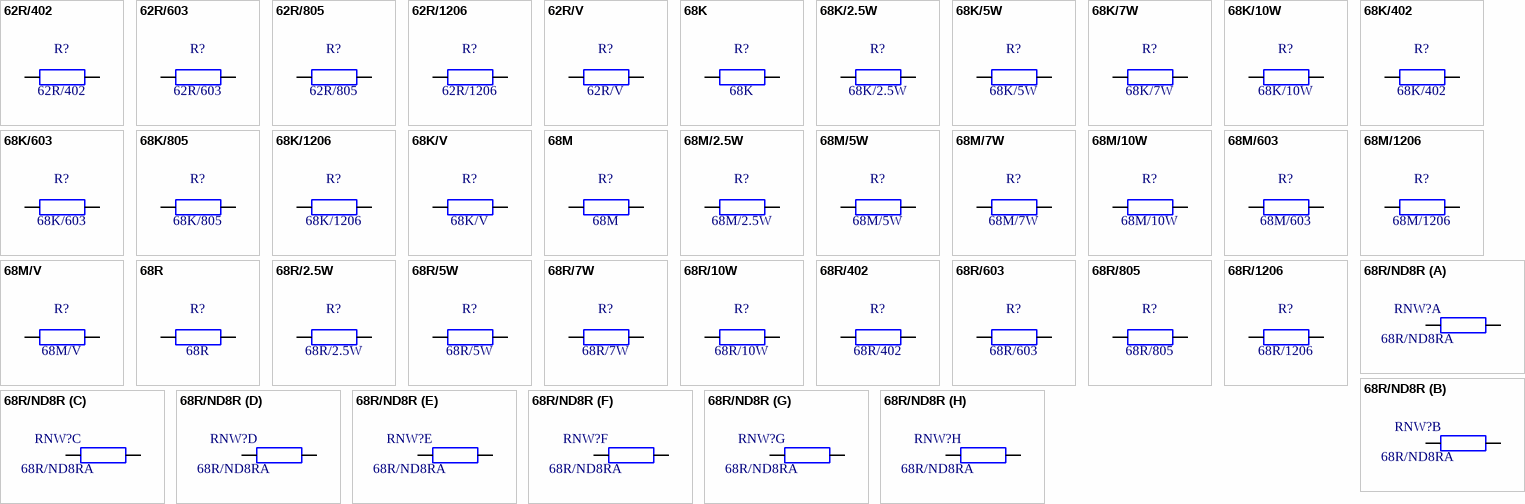
[diagram p68: symbols 62R/402 to 68R/ND8R]

## 62R/402
designator R?
weerstand SMD402, 62R
footprint smd C0402_0.35
pins: 1, 2